# Altium integrated library Renesas Microprocessor SuperH.IntLib: 433 symbols (part 35 of 62)
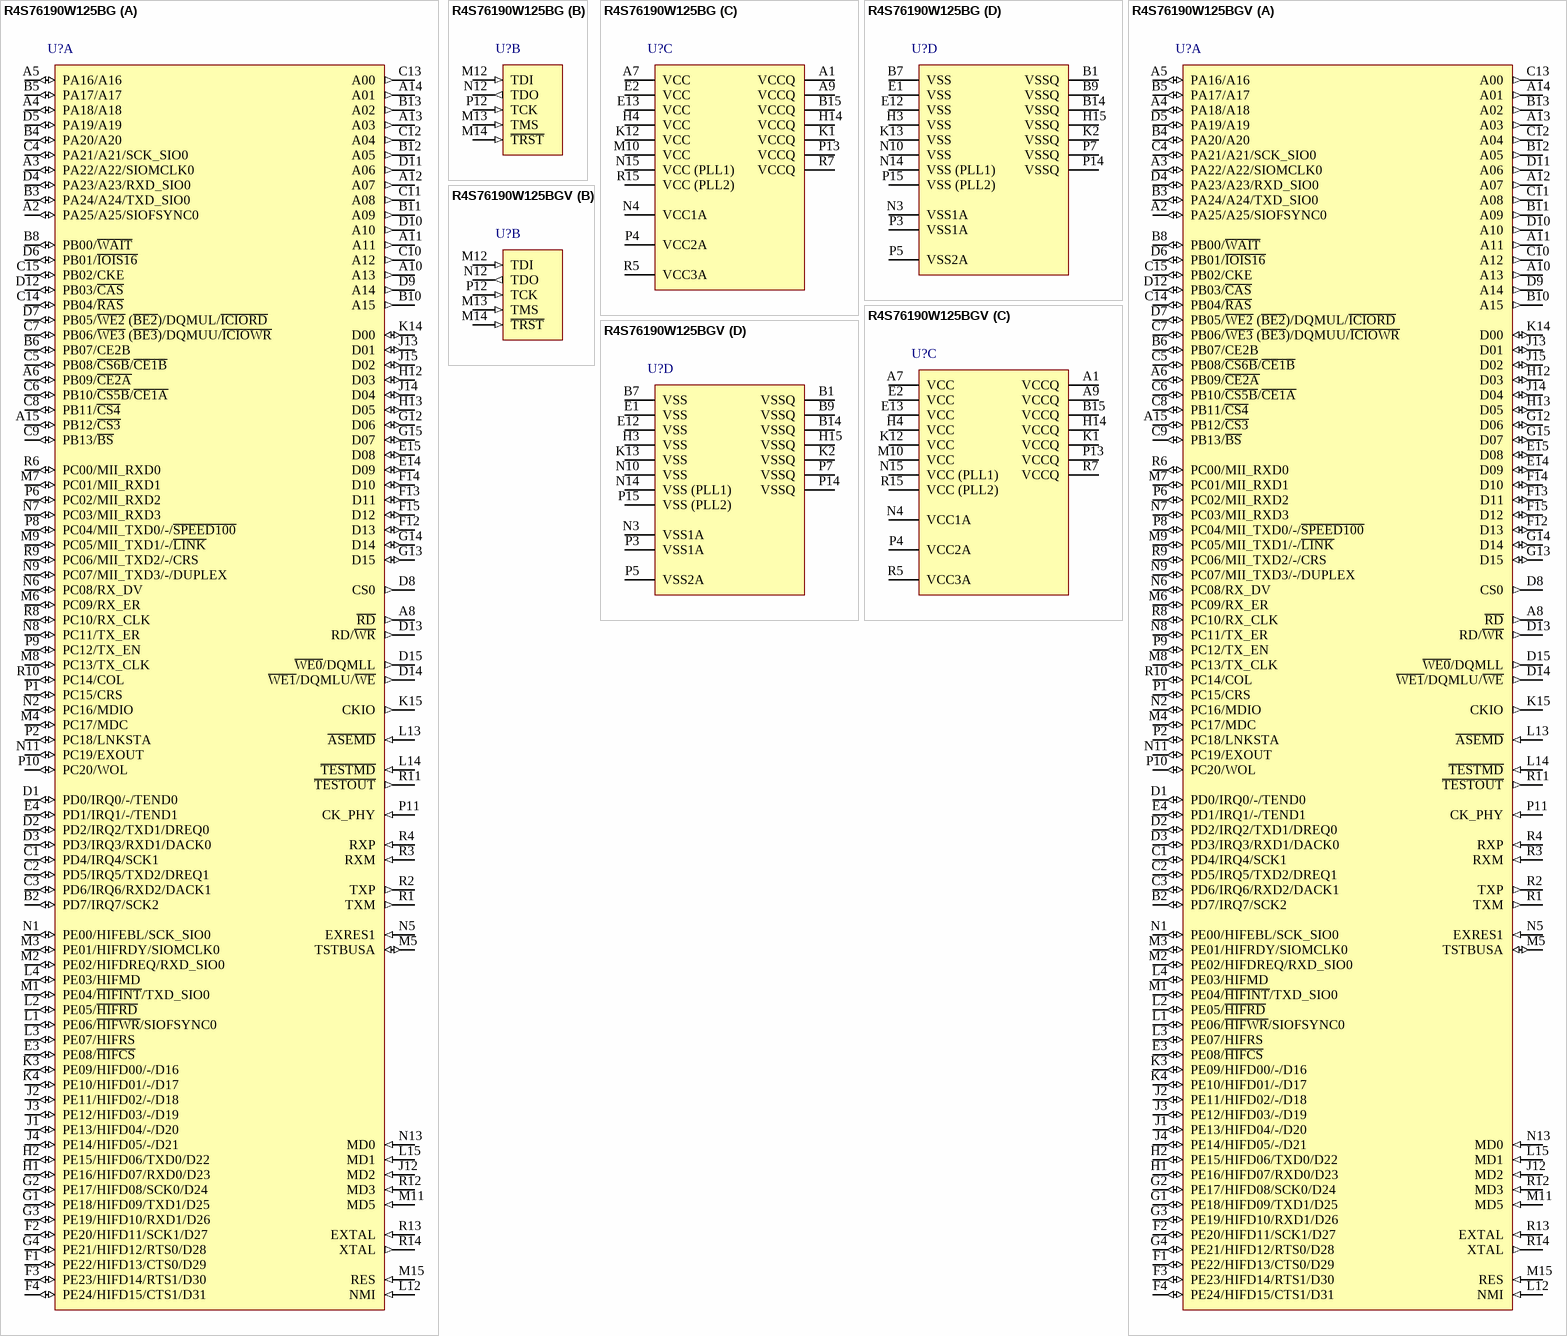
[diagram p303: symbols R4S76190W125BG to R4S76190W125BGV]

## R4S76190W125BGV
designator U?
32-Bit RISC Microcomputer, SH-Ether Series, SH-2 core, 125MHz, 16K RAM, PLBG0176GA-A (BP-176V) Package, -20 to 85°C; Published: 28-Aug-2009; LatestRevisionDate: 15-Feb-2010; LatestRevisionNote: Updated to datasheet revision 6.00 Jul-2009.; DatasheetVersion: Rev.6.00, Jul-2009; PackageVersion: Apr-2006; PackageReference: PLBG0176GA-A; Publisher: Altium Limited; PackageDescription: 176-Ball Plastic Low Profile Fine-Pitch BGA, 13 x 13 mm Body, 0.8 mm Pitch; Code_JEITA: P-LFBGA176-13x13-0.80; ComponentLink1Description: Manufacturer Link; ComponentLink1URL: http://www.renesas.com/fmwk.jsp?cnt=sh7619_root.jsp&fp=/products/mpumcu/superh_family/shether_series/sh7619_group/; ComponentLink2Description: Datasheet; ComponentLink2URL: http://documentation.renesas.com/eng/products/mpumcu/rej09b0237_sh7619.pdf; ComponentLink3Description: Packaging Specification; ComponentLink3URL: http://sg.renesas.com/media/products/common_info/package/pdf/ic/code/plbg0176ga_a.pdf
footprint PLBG0176GA-A (BGA, 176-Leads, Body 13x13mm, Pitch 0.8mm)
part A pins: A2 PA25/A25/SIOFSYNC0 (io), A3 PA22/A22/SIOMCLK0 (io), A4 PA18/A18 (io), A5 PA16/A16 (io), A6 PB09/~{CE2A} (io), A8 ~{RD} (out), A10 A13 (out), A11 (out), A12 A07 (out), A13 A03 (out), A14 A01 (out), A15 PB12/~{CS3} (io), B2 PD7/IRQ7/SCK2 (io), B3 PA24/A24/TXD_SIO0 (io), B4 PA20/A20 (io), B5 PA17/A17 (io), B6 PB07/CE2B (io), B8 PB00/~{WAIT} (io), B10 A15 (out), B11 A09 (out), B12 A05 (out), B13 A02 (out), C1 PD4/IRQ4/SCK1 (io), C2 PD5/IRQ5/TXD2/DREQ1 (io), C3 PD6/IRQ6/RXD2/DACK1 (io), C4 PA21/A21/SCK_SIO0 (io), C5 PB08/~{CS6B}/~{CE1B} (io), C6 PB10/~{CS5B}/~{CE1A} (io), C7 PB06/~{WE3} (~{BE3})/DQMUU/~{ICIOWR} (io), C8 PB11/~{CS4} (io), C9 PB13/~{BS} (io), C10 A12 (out), C11 A08 (out), C12 A04 (out), C13 A00 (out), C14 PB04/~{RAS} (io), C15 PB02/CKE (io), D1 PD0/IRQ0/-/TEND0 (io), D2 PD2/IRQ2/TXD1/DREQ0 (io), D3 PD3/IRQ3/RXD1/DACK0 (io), D4 PA23/A23/RXD_SIO0 (io), D5 PA19/A19 (io), D6 PB01/~{IOIS16} (io), D7 PB05/~{WE2} (~{BE2})/DQMUL/~{ICIORD} (io), D8 CS0 (out), D9 A14 (out), D10 A10 (out), D11 A06 (out), D12 PB03/~{CAS} (io), D13 RD/~{WR} (out), D14 ~{WE1}/DQMLU/~{WE} (out), D15 ~{WE0}/DQMLL (out), E3 PE08/~{HIFCS} (io), E4 PD1/IRQ1/-/TEND1 (io), E14 D09 (io), E15 D08 (io), F1 PE22/HIFD13/CTS0/D29 (io), F2 PE20/HIFD11/SCK1/D27 (io), F3 PE23/HIFD14/RTS1/D30 (io), F4 PE24/HIFD15/CTS1/D31 (io), F12 D13 (io), F13 D11 (io), F14 D10 (io), F15 D12 (io), G1 PE18/HIFD09/TXD1/D25 (io), G2 PE17/HIFD08/SCK0/D24 (io), G3 PE19/HIFD10/RXD1/D26 (io), G4 PE21/HIFD12/RTS0/D28 (io), G12 D06 (io), G13 D15 (io), G14 D14 (io), G15 D07 (io), H1 PE16/HIFD07/RXD0/D23 (io), H2 PE15/HIFD06/TXD0/D22 (io), H12 D03 (io), H13 D05 (io), J1 PE13/HIFD04/-/D20 (io), J2 PE11/HIFD02/-/D18 (io), J3 PE12/HIFD03/-/D19 (io), J4 PE14/HIFD05/-/D21 (io), J12 MD2 (in), J13 D01 (io), J14 D04 (io), J15 D02 (io), K3 PE09/HIFD00/-/D16 (io), K4 PE10/HIFD01/-/D17 (io), K14 D00 (io), K15 CKIO (out), L1 PE06/~{HIFWR}/SIOFSYNC0 (io), L2 PE05/~{HIFRD} (io), L3 PE07/HIFRS (io), L4 PE03/HIFMD (io), L12 NMI (in), L13 ~{ASEMD} (in), L14 ~{TESTMD} (in), L15 MD1 (in), M1 PE04/~{HIFINT}/TXD_SIO0 (io), M2 PE02/HIFDREQ/RXD_SIO0 (io), M3 PE01/HIFRDY/SIOMCLK0 (io), M4 PC17/MDC (io), M5 TSTBUSA (io), M6 PC09/RX_ER (io), M7 PC01/MII_RXD1 (io), M8 PC13/TX_CLK (io), M9 PC05/MII_TXD1/-/~{LINK} (io), M11 MD5 (in), M15 RES (in), N1 PE00/HIFEBL/SCK_SIO0 (io), N2 PC16/MDIO (io), N5 EXRES1 (in), N6 PC08/RX_DV (io), N7 PC03/MII_RXD3 (io), N8 PC11/TX_ER (io), N9 PC07/MII_TXD3/-/DUPLEX (io), N11 PC19/EXOUT (io), N13 MD0 (in), P1 PC15/CRS (io), P2 PC18/LNKSTA (io), P6 PC02/MII_RXD2 (io), P8 PC04/MII_TXD0/-/~{SPEED100} (io), P9 PC12/TX_EN (io), P10 PC20/WOL (io), P11 CK_PHY (in), R1 TXM (out), R2 TXP (out), R3 RXM (in), R4 RXP (in), R6 PC00/MII_RXD0 (io), R8 PC10/RX_CLK (io), R9 PC06/MII_TXD2/-/CRS (io), R10 PC14/COL (io), R11 ~{TESTOUT} (out), R12 MD3 (in), R13 EXTAL (in), R14 XTAL (out)
part B pins: M12 TDI (in), M13 TMS (in), M14 ~{TRST} (in), N12 TDO (out), P12 TCK (in)
part C pins: A1 VCCQ (power), A7 VCC (power), A9 VCCQ (power), B15 VCCQ (power), E2 VCC (power), E13 VCC (power), H4 VCC (power), H14 VCCQ (power), K1 VCCQ (power), K12 VCC (power), M10 VCC (power), N4 VCC1A (power), N15 VCC (PLL1) (power), P4 VCC2A (power), P13 VCCQ (power), R5 VCC3A (power), R7 VCCQ (power), R15 VCC (PLL2) (power)
part D pins: B1 VSSQ (power), B7 VSS (power), B9 VSSQ (power), B14 VSSQ (power), E1 VSS (power), E12 VSS (power), H3 VSS (power), H15 VSSQ (power), K2 VSSQ (power), K13 VSS (power), N3 VSS1A (power), N10 VSS (power), N14 VSS (PLL1) (power), P3 VSS1A (power), P5 VSS2A (power), P7 VSSQ (power), P14 VSSQ (power), P15 VSS (PLL2) (power)

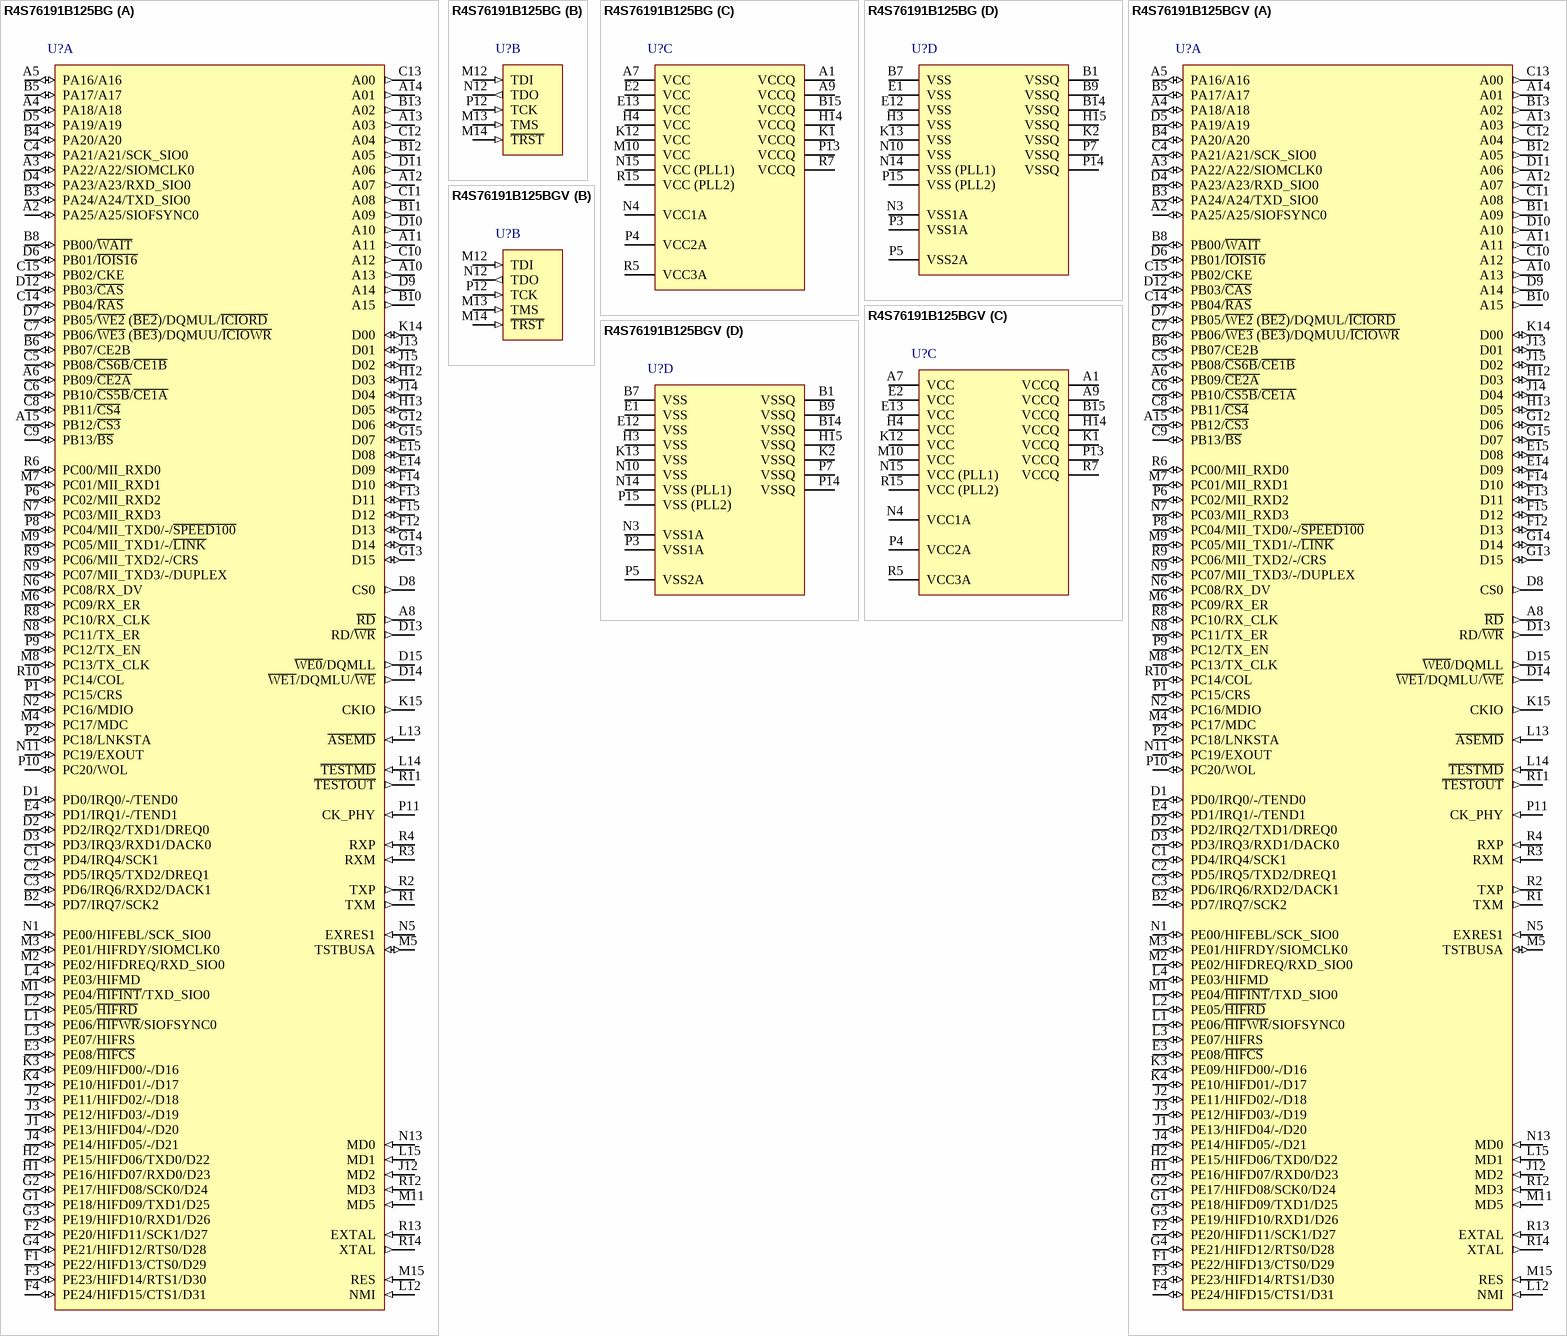
[diagram p126: symbols R4S76191B125BG to R4S76191B125BGV]

## R4S76191B125BG
designator U?
32-Bit RISC Microcomputer, SH-Ether Series, SH-2 core, 125MHz, 16K RAM, PLBG0176GA-A (BP-176) Package, -20 to 70°C; Published: 28-Aug-2009; LatestRevisionDate: 15-Feb-2010; LatestRevisionNote: Updated to datasheet revision 6.00 Jul-2009.; DatasheetVersion: Rev.6.00, Jul-2009; PackageVersion: Apr-2006; PackageReference: PLBG0176GA-A; Publisher: Altium Limited; PackageDescription: 176-Ball Plastic Low Profile Fine-Pitch BGA, 13 x 13 mm Body, 0.8 mm Pitch; Code_JEITA: P-LFBGA176-13x13-0.80; ComponentLink1Description: Manufacturer Link; ComponentLink1URL: http://www.renesas.com/fmwk.jsp?cnt=sh7619_root.jsp&fp=/products/mpumcu/superh_family/shether_series/sh7619_group/; ComponentLink2Description: Datasheet; ComponentLink2URL: http://documentation.renesas.com/eng/products/mpumcu/rej09b0237_sh7619.pdf; ComponentLink3Description: Packaging Specification; ComponentLink3URL: http://sg.renesas.com/media/products/common_info/package/pdf/ic/code/plbg0176ga_a.pdf
footprint PLBG0176GA-A (BGA, 176-Leads, Body 13x13mm, Pitch 0.8mm)
part A pins: A2 PA25/A25/SIOFSYNC0 (io), A3 PA22/A22/SIOMCLK0 (io), A4 PA18/A18 (io), A5 PA16/A16 (io), A6 PB09/~{CE2A} (io), A8 ~{RD} (out), A10 A13 (out), A11 (out), A12 A07 (out), A13 A03 (out), A14 A01 (out), A15 PB12/~{CS3} (io), B2 PD7/IRQ7/SCK2 (io), B3 PA24/A24/TXD_SIO0 (io), B4 PA20/A20 (io), B5 PA17/A17 (io), B6 PB07/CE2B (io), B8 PB00/~{WAIT} (io), B10 A15 (out), B11 A09 (out), B12 A05 (out), B13 A02 (out), C1 PD4/IRQ4/SCK1 (io), C2 PD5/IRQ5/TXD2/DREQ1 (io), C3 PD6/IRQ6/RXD2/DACK1 (io), C4 PA21/A21/SCK_SIO0 (io), C5 PB08/~{CS6B}/~{CE1B} (io), C6 PB10/~{CS5B}/~{CE1A} (io), C7 PB06/~{WE3} (~{BE3})/DQMUU/~{ICIOWR} (io), C8 PB11/~{CS4} (io), C9 PB13/~{BS} (io), C10 A12 (out), C11 A08 (out), C12 A04 (out), C13 A00 (out), C14 PB04/~{RAS} (io), C15 PB02/CKE (io), D1 PD0/IRQ0/-/TEND0 (io), D2 PD2/IRQ2/TXD1/DREQ0 (io), D3 PD3/IRQ3/RXD1/DACK0 (io), D4 PA23/A23/RXD_SIO0 (io), D5 PA19/A19 (io), D6 PB01/~{IOIS16} (io), D7 PB05/~{WE2} (~{BE2})/DQMUL/~{ICIORD} (io), D8 CS0 (out), D9 A14 (out), D10 A10 (out), D11 A06 (out), D12 PB03/~{CAS} (io), D13 RD/~{WR} (out), D14 ~{WE1}/DQMLU/~{WE} (out), D15 ~{WE0}/DQMLL (out), E3 PE08/~{HIFCS} (io), E4 PD1/IRQ1/-/TEND1 (io), E14 D09 (io), E15 D08 (io), F1 PE22/HIFD13/CTS0/D29 (io), F2 PE20/HIFD11/SCK1/D27 (io), F3 PE23/HIFD14/RTS1/D30 (io), F4 PE24/HIFD15/CTS1/D31 (io), F12 D13 (io), F13 D11 (io), F14 D10 (io), F15 D12 (io), G1 PE18/HIFD09/TXD1/D25 (io), G2 PE17/HIFD08/SCK0/D24 (io), G3 PE19/HIFD10/RXD1/D26 (io), G4 PE21/HIFD12/RTS0/D28 (io), G12 D06 (io), G13 D15 (io), G14 D14 (io), G15 D07 (io), H1 PE16/HIFD07/RXD0/D23 (io), H2 PE15/HIFD06/TXD0/D22 (io), H12 D03 (io), H13 D05 (io), J1 PE13/HIFD04/-/D20 (io), J2 PE11/HIFD02/-/D18 (io), J3 PE12/HIFD03/-/D19 (io), J4 PE14/HIFD05/-/D21 (io), J12 MD2 (in), J13 D01 (io), J14 D04 (io), J15 D02 (io), K3 PE09/HIFD00/-/D16 (io), K4 PE10/HIFD01/-/D17 (io), K14 D00 (io), K15 CKIO (out), L1 PE06/~{HIFWR}/SIOFSYNC0 (io), L2 PE05/~{HIFRD} (io), L3 PE07/HIFRS (io), L4 PE03/HIFMD (io), L12 NMI (in), L13 ~{ASEMD} (in), L14 ~{TESTMD} (in), L15 MD1 (in), M1 PE04/~{HIFINT}/TXD_SIO0 (io), M2 PE02/HIFDREQ/RXD_SIO0 (io), M3 PE01/HIFRDY/SIOMCLK0 (io), M4 PC17/MDC (io), M5 TSTBUSA (io), M6 PC09/RX_ER (io), M7 PC01/MII_RXD1 (io), M8 PC13/TX_CLK (io), M9 PC05/MII_TXD1/-/~{LINK} (io), M11 MD5 (in), M15 RES (in), N1 PE00/HIFEBL/SCK_SIO0 (io), N2 PC16/MDIO (io), N5 EXRES1 (in), N6 PC08/RX_DV (io), N7 PC03/MII_RXD3 (io), N8 PC11/TX_ER (io), N9 PC07/MII_TXD3/-/DUPLEX (io), N11 PC19/EXOUT (io), N13 MD0 (in), P1 PC15/CRS (io), P2 PC18/LNKSTA (io), P6 PC02/MII_RXD2 (io), P8 PC04/MII_TXD0/-/~{SPEED100} (io), P9 PC12/TX_EN (io), P10 PC20/WOL (io), P11 CK_PHY (in), R1 TXM (out), R2 TXP (out), R3 RXM (in), R4 RXP (in), R6 PC00/MII_RXD0 (io), R8 PC10/RX_CLK (io), R9 PC06/MII_TXD2/-/CRS (io), R10 PC14/COL (io), R11 ~{TESTOUT} (out), R12 MD3 (in), R13 EXTAL (in), R14 XTAL (out)
part B pins: M12 TDI (in), M13 TMS (in), M14 ~{TRST} (in), N12 TDO (out), P12 TCK (in)
part C pins: A1 VCCQ (power), A7 VCC (power), A9 VCCQ (power), B15 VCCQ (power), E2 VCC (power), E13 VCC (power), H4 VCC (power), H14 VCCQ (power), K1 VCCQ (power), K12 VCC (power), M10 VCC (power), N4 VCC1A (power), N15 VCC (PLL1) (power), P4 VCC2A (power), P13 VCCQ (power), R5 VCC3A (power), R7 VCCQ (power), R15 VCC (PLL2) (power)
part D pins: B1 VSSQ (power), B7 VSS (power), B9 VSSQ (power), B14 VSSQ (power), E1 VSS (power), E12 VSS (power), H3 VSS (power), H15 VSSQ (power), K2 VSSQ (power), K13 VSS (power), N3 VSS1A (power), N10 VSS (power), N14 VSS (PLL1) (power), P3 VSS1A (power), P5 VSS2A (power), P7 VSSQ (power), P14 VSSQ (power), P15 VSS (PLL2) (power)

## R4S76191B125BGV
designator U?
32-Bit RISC Microcomputer, SH-Ether Series, SH-2 core, 125MHz, 16K RAM, PLBG0176GA-A (BP-176V) Package, -20 to 70°C; Published: 28-Aug-2009; LatestRevisionDate: 15-Feb-2010; LatestRevisionNote: Updated to datasheet revision 6.00 Jul-2009.; DatasheetVersion: Rev.6.00, Jul-2009; PackageVersion: Apr-2006; PackageReference: PLBG0176GA-A; Publisher: Altium Limited; PackageDescription: 176-Ball Plastic Low Profile Fine-Pitch BGA, 13 x 13 mm Body, 0.8 mm Pitch; Code_JEITA: P-LFBGA176-13x13-0.80; ComponentLink1Description: Manufacturer Link; ComponentLink1URL: http://www.renesas.com/fmwk.jsp?cnt=sh7619_root.jsp&fp=/products/mpumcu/superh_family/shether_series/sh7619_group/; ComponentLink2Description: Datasheet; ComponentLink2URL: http://documentation.renesas.com/eng/products/mpumcu/rej09b0237_sh7619.pdf; ComponentLink3Description: Packaging Specification; ComponentLink3URL: http://sg.renesas.com/media/products/common_info/package/pdf/ic/code/plbg0176ga_a.pdf
footprint PLBG0176GA-A (BGA, 176-Leads, Body 13x13mm, Pitch 0.8mm)
part A pins: A2 PA25/A25/SIOFSYNC0 (io), A3 PA22/A22/SIOMCLK0 (io), A4 PA18/A18 (io), A5 PA16/A16 (io), A6 PB09/~{CE2A} (io), A8 ~{RD} (out), A10 A13 (out), A11 (out), A12 A07 (out), A13 A03 (out), A14 A01 (out), A15 PB12/~{CS3} (io), B2 PD7/IRQ7/SCK2 (io), B3 PA24/A24/TXD_SIO0 (io), B4 PA20/A20 (io), B5 PA17/A17 (io), B6 PB07/CE2B (io), B8 PB00/~{WAIT} (io), B10 A15 (out), B11 A09 (out), B12 A05 (out), B13 A02 (out), C1 PD4/IRQ4/SCK1 (io), C2 PD5/IRQ5/TXD2/DREQ1 (io), C3 PD6/IRQ6/RXD2/DACK1 (io), C4 PA21/A21/SCK_SIO0 (io), C5 PB08/~{CS6B}/~{CE1B} (io), C6 PB10/~{CS5B}/~{CE1A} (io), C7 PB06/~{WE3} (~{BE3})/DQMUU/~{ICIOWR} (io), C8 PB11/~{CS4} (io), C9 PB13/~{BS} (io), C10 A12 (out), C11 A08 (out), C12 A04 (out), C13 A00 (out), C14 PB04/~{RAS} (io), C15 PB02/CKE (io), D1 PD0/IRQ0/-/TEND0 (io), D2 PD2/IRQ2/TXD1/DREQ0 (io), D3 PD3/IRQ3/RXD1/DACK0 (io), D4 PA23/A23/RXD_SIO0 (io), D5 PA19/A19 (io), D6 PB01/~{IOIS16} (io), D7 PB05/~{WE2} (~{BE2})/DQMUL/~{ICIORD} (io), D8 CS0 (out), D9 A14 (out), D10 A10 (out), D11 A06 (out), D12 PB03/~{CAS} (io), D13 RD/~{WR} (out), D14 ~{WE1}/DQMLU/~{WE} (out), D15 ~{WE0}/DQMLL (out), E3 PE08/~{HIFCS} (io), E4 PD1/IRQ1/-/TEND1 (io), E14 D09 (io), E15 D08 (io), F1 PE22/HIFD13/CTS0/D29 (io), F2 PE20/HIFD11/SCK1/D27 (io), F3 PE23/HIFD14/RTS1/D30 (io), F4 PE24/HIFD15/CTS1/D31 (io), F12 D13 (io), F13 D11 (io), F14 D10 (io), F15 D12 (io), G1 PE18/HIFD09/TXD1/D25 (io), G2 PE17/HIFD08/SCK0/D24 (io), G3 PE19/HIFD10/RXD1/D26 (io), G4 PE21/HIFD12/RTS0/D28 (io), G12 D06 (io), G13 D15 (io), G14 D14 (io), G15 D07 (io), H1 PE16/HIFD07/RXD0/D23 (io), H2 PE15/HIFD06/TXD0/D22 (io), H12 D03 (io), H13 D05 (io), J1 PE13/HIFD04/-/D20 (io), J2 PE11/HIFD02/-/D18 (io), J3 PE12/HIFD03/-/D19 (io), J4 PE14/HIFD05/-/D21 (io), J12 MD2 (in), J13 D01 (io), J14 D04 (io), J15 D02 (io), K3 PE09/HIFD00/-/D16 (io), K4 PE10/HIFD01/-/D17 (io), K14 D00 (io), K15 CKIO (out), L1 PE06/~{HIFWR}/SIOFSYNC0 (io), L2 PE05/~{HIFRD} (io), L3 PE07/HIFRS (io), L4 PE03/HIFMD (io), L12 NMI (in), L13 ~{ASEMD} (in), L14 ~{TESTMD} (in), L15 MD1 (in), M1 PE04/~{HIFINT}/TXD_SIO0 (io), M2 PE02/HIFDREQ/RXD_SIO0 (io), M3 PE01/HIFRDY/SIOMCLK0 (io), M4 PC17/MDC (io), M5 TSTBUSA (io), M6 PC09/RX_ER (io), M7 PC01/MII_RXD1 (io), M8 PC13/TX_CLK (io), M9 PC05/MII_TXD1/-/~{LINK} (io), M11 MD5 (in), M15 RES (in), N1 PE00/HIFEBL/SCK_SIO0 (io), N2 PC16/MDIO (io), N5 EXRES1 (in), N6 PC08/RX_DV (io), N7 PC03/MII_RXD3 (io), N8 PC11/TX_ER (io), N9 PC07/MII_TXD3/-/DUPLEX (io), N11 PC19/EXOUT (io), N13 MD0 (in), P1 PC15/CRS (io), P2 PC18/LNKSTA (io), P6 PC02/MII_RXD2 (io), P8 PC04/MII_TXD0/-/~{SPEED100} (io), P9 PC12/TX_EN (io), P10 PC20/WOL (io), P11 CK_PHY (in), R1 TXM (out), R2 TXP (out), R3 RXM (in), R4 RXP (in), R6 PC00/MII_RXD0 (io), R8 PC10/RX_CLK (io), R9 PC06/MII_TXD2/-/CRS (io), R10 PC14/COL (io), R11 ~{TESTOUT} (out), R12 MD3 (in), R13 EXTAL (in), R14 XTAL (out)
part B pins: M12 TDI (in), M13 TMS (in), M14 ~{TRST} (in), N12 TDO (out), P12 TCK (in)
part C pins: A1 VCCQ (power), A7 VCC (power), A9 VCCQ (power), B15 VCCQ (power), E2 VCC (power), E13 VCC (power), H4 VCC (power), H14 VCCQ (power), K1 VCCQ (power), K12 VCC (power), M10 VCC (power), N4 VCC1A (power), N15 VCC (PLL1) (power), P4 VCC2A (power), P13 VCCQ (power), R5 VCC3A (power), R7 VCCQ (power), R15 VCC (PLL2) (power)
part D pins: B1 VSSQ (power), B7 VSS (power), B9 VSSQ (power), B14 VSSQ (power), E1 VSS (power), E12 VSS (power), H3 VSS (power), H15 VSSQ (power), K2 VSSQ (power), K13 VSS (power), N3 VSS1A (power), N10 VSS (power), N14 VSS (PLL1) (power), P3 VSS1A (power), P5 VSS2A (power), P7 VSSQ (power), P14 VSSQ (power), P15 VSS (PLL2) (power)

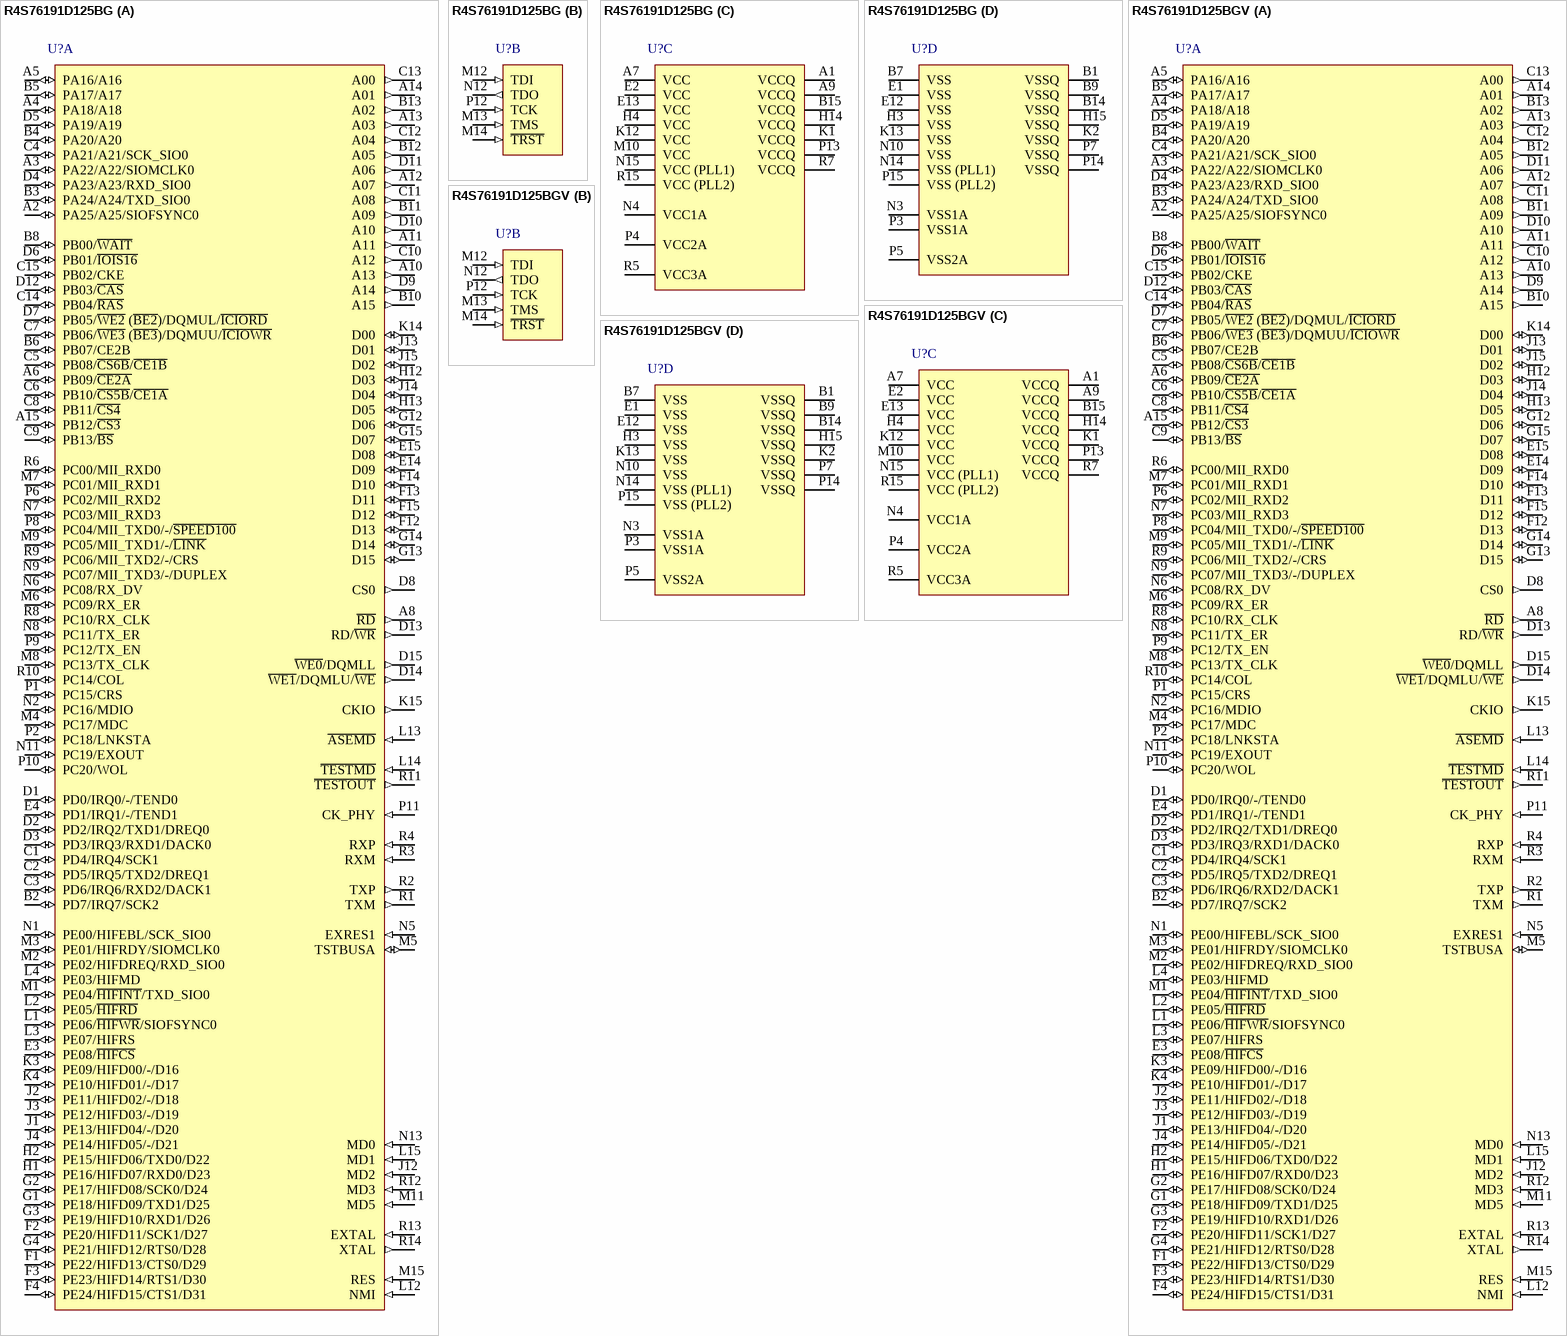
[diagram p127: symbols R4S76191D125BG to R4S76191D125BGV]

## R4S76191D125BG
designator U?
32-Bit RISC Microcomputer, SH-Ether Series, SH-2 core, 125MHz, 16K RAM, PLBG0176GA-A (BP-176) Package, -40 to 85°C; Published: 28-Aug-2009; LatestRevisionDate: 15-Feb-2010; LatestRevisionNote: Updated to datasheet revision 6.00 Jul-2009.; DatasheetVersion: Rev.6.00, Jul-2009; PackageVersion: Apr-2006; PackageReference: PLBG0176GA-A; Publisher: Altium Limited; PackageDescription: 176-Ball Plastic Low Profile Fine-Pitch BGA, 13 x 13 mm Body, 0.8 mm Pitch; Code_JEITA: P-LFBGA176-13x13-0.80; ComponentLink1Description: Manufacturer Link; ComponentLink1URL: http://www.renesas.com/fmwk.jsp?cnt=sh7619_root.jsp&fp=/products/mpumcu/superh_family/shether_series/sh7619_group/; ComponentLink2Description: Datasheet; ComponentLink2URL: http://documentation.renesas.com/eng/products/mpumcu/rej09b0237_sh7619.pdf; ComponentLink3Description: Packaging Specification; ComponentLink3URL: http://sg.renesas.com/media/products/common_info/package/pdf/ic/code/plbg0176ga_a.pdf
footprint PLBG0176GA-A (BGA, 176-Leads, Body 13x13mm, Pitch 0.8mm)
part A pins: A2 PA25/A25/SIOFSYNC0 (io), A3 PA22/A22/SIOMCLK0 (io), A4 PA18/A18 (io), A5 PA16/A16 (io), A6 PB09/~{CE2A} (io), A8 ~{RD} (out), A10 A13 (out), A11 (out), A12 A07 (out), A13 A03 (out), A14 A01 (out), A15 PB12/~{CS3} (io), B2 PD7/IRQ7/SCK2 (io), B3 PA24/A24/TXD_SIO0 (io), B4 PA20/A20 (io), B5 PA17/A17 (io), B6 PB07/CE2B (io), B8 PB00/~{WAIT} (io), B10 A15 (out), B11 A09 (out), B12 A05 (out), B13 A02 (out), C1 PD4/IRQ4/SCK1 (io), C2 PD5/IRQ5/TXD2/DREQ1 (io), C3 PD6/IRQ6/RXD2/DACK1 (io), C4 PA21/A21/SCK_SIO0 (io), C5 PB08/~{CS6B}/~{CE1B} (io), C6 PB10/~{CS5B}/~{CE1A} (io), C7 PB06/~{WE3} (~{BE3})/DQMUU/~{ICIOWR} (io), C8 PB11/~{CS4} (io), C9 PB13/~{BS} (io), C10 A12 (out), C11 A08 (out), C12 A04 (out), C13 A00 (out), C14 PB04/~{RAS} (io), C15 PB02/CKE (io), D1 PD0/IRQ0/-/TEND0 (io), D2 PD2/IRQ2/TXD1/DREQ0 (io), D3 PD3/IRQ3/RXD1/DACK0 (io), D4 PA23/A23/RXD_SIO0 (io), D5 PA19/A19 (io), D6 PB01/~{IOIS16} (io), D7 PB05/~{WE2} (~{BE2})/DQMUL/~{ICIORD} (io), D8 CS0 (out), D9 A14 (out), D10 A10 (out), D11 A06 (out), D12 PB03/~{CAS} (io), D13 RD/~{WR} (out), D14 ~{WE1}/DQMLU/~{WE} (out), D15 ~{WE0}/DQMLL (out), E3 PE08/~{HIFCS} (io), E4 PD1/IRQ1/-/TEND1 (io), E14 D09 (io), E15 D08 (io), F1 PE22/HIFD13/CTS0/D29 (io), F2 PE20/HIFD11/SCK1/D27 (io), F3 PE23/HIFD14/RTS1/D30 (io), F4 PE24/HIFD15/CTS1/D31 (io), F12 D13 (io), F13 D11 (io), F14 D10 (io), F15 D12 (io), G1 PE18/HIFD09/TXD1/D25 (io), G2 PE17/HIFD08/SCK0/D24 (io), G3 PE19/HIFD10/RXD1/D26 (io), G4 PE21/HIFD12/RTS0/D28 (io), G12 D06 (io), G13 D15 (io), G14 D14 (io), G15 D07 (io), H1 PE16/HIFD07/RXD0/D23 (io), H2 PE15/HIFD06/TXD0/D22 (io), H12 D03 (io), H13 D05 (io), J1 PE13/HIFD04/-/D20 (io), J2 PE11/HIFD02/-/D18 (io), J3 PE12/HIFD03/-/D19 (io), J4 PE14/HIFD05/-/D21 (io), J12 MD2 (in), J13 D01 (io), J14 D04 (io), J15 D02 (io), K3 PE09/HIFD00/-/D16 (io), K4 PE10/HIFD01/-/D17 (io), K14 D00 (io), K15 CKIO (out), L1 PE06/~{HIFWR}/SIOFSYNC0 (io), L2 PE05/~{HIFRD} (io), L3 PE07/HIFRS (io), L4 PE03/HIFMD (io), L12 NMI (in), L13 ~{ASEMD} (in), L14 ~{TESTMD} (in), L15 MD1 (in), M1 PE04/~{HIFINT}/TXD_SIO0 (io), M2 PE02/HIFDREQ/RXD_SIO0 (io), M3 PE01/HIFRDY/SIOMCLK0 (io), M4 PC17/MDC (io), M5 TSTBUSA (io), M6 PC09/RX_ER (io), M7 PC01/MII_RXD1 (io), M8 PC13/TX_CLK (io), M9 PC05/MII_TXD1/-/~{LINK} (io), M11 MD5 (in), M15 RES (in), N1 PE00/HIFEBL/SCK_SIO0 (io), N2 PC16/MDIO (io), N5 EXRES1 (in), N6 PC08/RX_DV (io), N7 PC03/MII_RXD3 (io), N8 PC11/TX_ER (io), N9 PC07/MII_TXD3/-/DUPLEX (io), N11 PC19/EXOUT (io), N13 MD0 (in), P1 PC15/CRS (io), P2 PC18/LNKSTA (io), P6 PC02/MII_RXD2 (io), P8 PC04/MII_TXD0/-/~{SPEED100} (io), P9 PC12/TX_EN (io), P10 PC20/WOL (io), P11 CK_PHY (in), R1 TXM (out), R2 TXP (out), R3 RXM (in), R4 RXP (in), R6 PC00/MII_RXD0 (io), R8 PC10/RX_CLK (io), R9 PC06/MII_TXD2/-/CRS (io), R10 PC14/COL (io), R11 ~{TESTOUT} (out), R12 MD3 (in), R13 EXTAL (in), R14 XTAL (out)
part B pins: M12 TDI (in), M13 TMS (in), M14 ~{TRST} (in), N12 TDO (out), P12 TCK (in)
part C pins: A1 VCCQ (power), A7 VCC (power), A9 VCCQ (power), B15 VCCQ (power), E2 VCC (power), E13 VCC (power), H4 VCC (power), H14 VCCQ (power), K1 VCCQ (power), K12 VCC (power), M10 VCC (power), N4 VCC1A (power), N15 VCC (PLL1) (power), P4 VCC2A (power), P13 VCCQ (power), R5 VCC3A (power), R7 VCCQ (power), R15 VCC (PLL2) (power)
part D pins: B1 VSSQ (power), B7 VSS (power), B9 VSSQ (power), B14 VSSQ (power), E1 VSS (power), E12 VSS (power), H3 VSS (power), H15 VSSQ (power), K2 VSSQ (power), K13 VSS (power), N3 VSS1A (power), N10 VSS (power), N14 VSS (PLL1) (power), P3 VSS1A (power), P5 VSS2A (power), P7 VSSQ (power), P14 VSSQ (power), P15 VSS (PLL2) (power)

## R4S76191D125BGV
designator U?
32-Bit RISC Microcomputer, SH-Ether Series, SH-2 core, 125MHz, 16K RAM, PLBG0176GA-A (BP-176V) Package, -40 to 85°C; Published: 28-Aug-2009; LatestRevisionDate: 15-Feb-2010; LatestRevisionNote: Updated to datasheet revision 6.00 Jul-2009.; DatasheetVersion: Rev.6.00, Jul-2009; PackageVersion: Apr-2006; PackageReference: PLBG0176GA-A; Publisher: Altium Limited; PackageDescription: 176-Ball Plastic Low Profile Fine-Pitch BGA, 13 x 13 mm Body, 0.8 mm Pitch; Code_JEITA: P-LFBGA176-13x13-0.80; ComponentLink1Description: Manufacturer Link; ComponentLink1URL: http://www.renesas.com/fmwk.jsp?cnt=sh7619_root.jsp&fp=/products/mpumcu/superh_family/shether_series/sh7619_group/; ComponentLink2Description: Datasheet; ComponentLink2URL: http://documentation.renesas.com/eng/products/mpumcu/rej09b0237_sh7619.pdf; ComponentLink3Description: Packaging Specification; ComponentLink3URL: http://sg.renesas.com/media/products/common_info/package/pdf/ic/code/plbg0176ga_a.pdf
footprint PLBG0176GA-A (BGA, 176-Leads, Body 13x13mm, Pitch 0.8mm)
part A pins: A2 PA25/A25/SIOFSYNC0 (io), A3 PA22/A22/SIOMCLK0 (io), A4 PA18/A18 (io), A5 PA16/A16 (io), A6 PB09/~{CE2A} (io), A8 ~{RD} (out), A10 A13 (out), A11 (out), A12 A07 (out), A13 A03 (out), A14 A01 (out), A15 PB12/~{CS3} (io), B2 PD7/IRQ7/SCK2 (io), B3 PA24/A24/TXD_SIO0 (io), B4 PA20/A20 (io), B5 PA17/A17 (io), B6 PB07/CE2B (io), B8 PB00/~{WAIT} (io), B10 A15 (out), B11 A09 (out), B12 A05 (out), B13 A02 (out), C1 PD4/IRQ4/SCK1 (io), C2 PD5/IRQ5/TXD2/DREQ1 (io), C3 PD6/IRQ6/RXD2/DACK1 (io), C4 PA21/A21/SCK_SIO0 (io), C5 PB08/~{CS6B}/~{CE1B} (io), C6 PB10/~{CS5B}/~{CE1A} (io), C7 PB06/~{WE3} (~{BE3})/DQMUU/~{ICIOWR} (io), C8 PB11/~{CS4} (io), C9 PB13/~{BS} (io), C10 A12 (out), C11 A08 (out), C12 A04 (out), C13 A00 (out), C14 PB04/~{RAS} (io), C15 PB02/CKE (io), D1 PD0/IRQ0/-/TEND0 (io), D2 PD2/IRQ2/TXD1/DREQ0 (io), D3 PD3/IRQ3/RXD1/DACK0 (io), D4 PA23/A23/RXD_SIO0 (io), D5 PA19/A19 (io), D6 PB01/~{IOIS16} (io), D7 PB05/~{WE2} (~{BE2})/DQMUL/~{ICIORD} (io), D8 CS0 (out), D9 A14 (out), D10 A10 (out), D11 A06 (out), D12 PB03/~{CAS} (io), D13 RD/~{WR} (out), D14 ~{WE1}/DQMLU/~{WE} (out), D15 ~{WE0}/DQMLL (out), E3 PE08/~{HIFCS} (io), E4 PD1/IRQ1/-/TEND1 (io), E14 D09 (io), E15 D08 (io), F1 PE22/HIFD13/CTS0/D29 (io), F2 PE20/HIFD11/SCK1/D27 (io), F3 PE23/HIFD14/RTS1/D30 (io), F4 PE24/HIFD15/CTS1/D31 (io), F12 D13 (io), F13 D11 (io), F14 D10 (io), F15 D12 (io), G1 PE18/HIFD09/TXD1/D25 (io), G2 PE17/HIFD08/SCK0/D24 (io), G3 PE19/HIFD10/RXD1/D26 (io), G4 PE21/HIFD12/RTS0/D28 (io), G12 D06 (io), G13 D15 (io), G14 D14 (io), G15 D07 (io), H1 PE16/HIFD07/RXD0/D23 (io), H2 PE15/HIFD06/TXD0/D22 (io), H12 D03 (io), H13 D05 (io), J1 PE13/HIFD04/-/D20 (io), J2 PE11/HIFD02/-/D18 (io), J3 PE12/HIFD03/-/D19 (io), J4 PE14/HIFD05/-/D21 (io), J12 MD2 (in), J13 D01 (io), J14 D04 (io), J15 D02 (io), K3 PE09/HIFD00/-/D16 (io), K4 PE10/HIFD01/-/D17 (io), K14 D00 (io), K15 CKIO (out), L1 PE06/~{HIFWR}/SIOFSYNC0 (io), L2 PE05/~{HIFRD} (io), L3 PE07/HIFRS (io), L4 PE03/HIFMD (io), L12 NMI (in), L13 ~{ASEMD} (in), L14 ~{TESTMD} (in), L15 MD1 (in), M1 PE04/~{HIFINT}/TXD_SIO0 (io), M2 PE02/HIFDREQ/RXD_SIO0 (io), M3 PE01/HIFRDY/SIOMCLK0 (io), M4 PC17/MDC (io), M5 TSTBUSA (io), M6 PC09/RX_ER (io), M7 PC01/MII_RXD1 (io), M8 PC13/TX_CLK (io), M9 PC05/MII_TXD1/-/~{LINK} (io), M11 MD5 (in), M15 RES (in), N1 PE00/HIFEBL/SCK_SIO0 (io), N2 PC16/MDIO (io), N5 EXRES1 (in), N6 PC08/RX_DV (io), N7 PC03/MII_RXD3 (io), N8 PC11/TX_ER (io), N9 PC07/MII_TXD3/-/DUPLEX (io), N11 PC19/EXOUT (io), N13 MD0 (in), P1 PC15/CRS (io), P2 PC18/LNKSTA (io), P6 PC02/MII_RXD2 (io), P8 PC04/MII_TXD0/-/~{SPEED100} (io), P9 PC12/TX_EN (io), P10 PC20/WOL (io), P11 CK_PHY (in), R1 TXM (out), R2 TXP (out), R3 RXM (in), R4 RXP (in), R6 PC00/MII_RXD0 (io), R8 PC10/RX_CLK (io), R9 PC06/MII_TXD2/-/CRS (io), R10 PC14/COL (io), R11 ~{TESTOUT} (out), R12 MD3 (in), R13 EXTAL (in), R14 XTAL (out)
part B pins: M12 TDI (in), M13 TMS (in), M14 ~{TRST} (in), N12 TDO (out), P12 TCK (in)
part C pins: A1 VCCQ (power), A7 VCC (power), A9 VCCQ (power), B15 VCCQ (power), E2 VCC (power), E13 VCC (power), H4 VCC (power), H14 VCCQ (power), K1 VCCQ (power), K12 VCC (power), M10 VCC (power), N4 VCC1A (power), N15 VCC (PLL1) (power), P4 VCC2A (power), P13 VCCQ (power), R5 VCC3A (power), R7 VCCQ (power), R15 VCC (PLL2) (power)
part D pins: B1 VSSQ (power), B7 VSS (power), B9 VSSQ (power), B14 VSSQ (power), E1 VSS (power), E12 VSS (power), H3 VSS (power), H15 VSSQ (power), K2 VSSQ (power), K13 VSS (power), N3 VSS1A (power), N10 VSS (power), N14 VSS (PLL1) (power), P3 VSS1A (power), P5 VSS2A (power), P7 VSSQ (power), P14 VSSQ (power), P15 VSS (PLL2) (power)

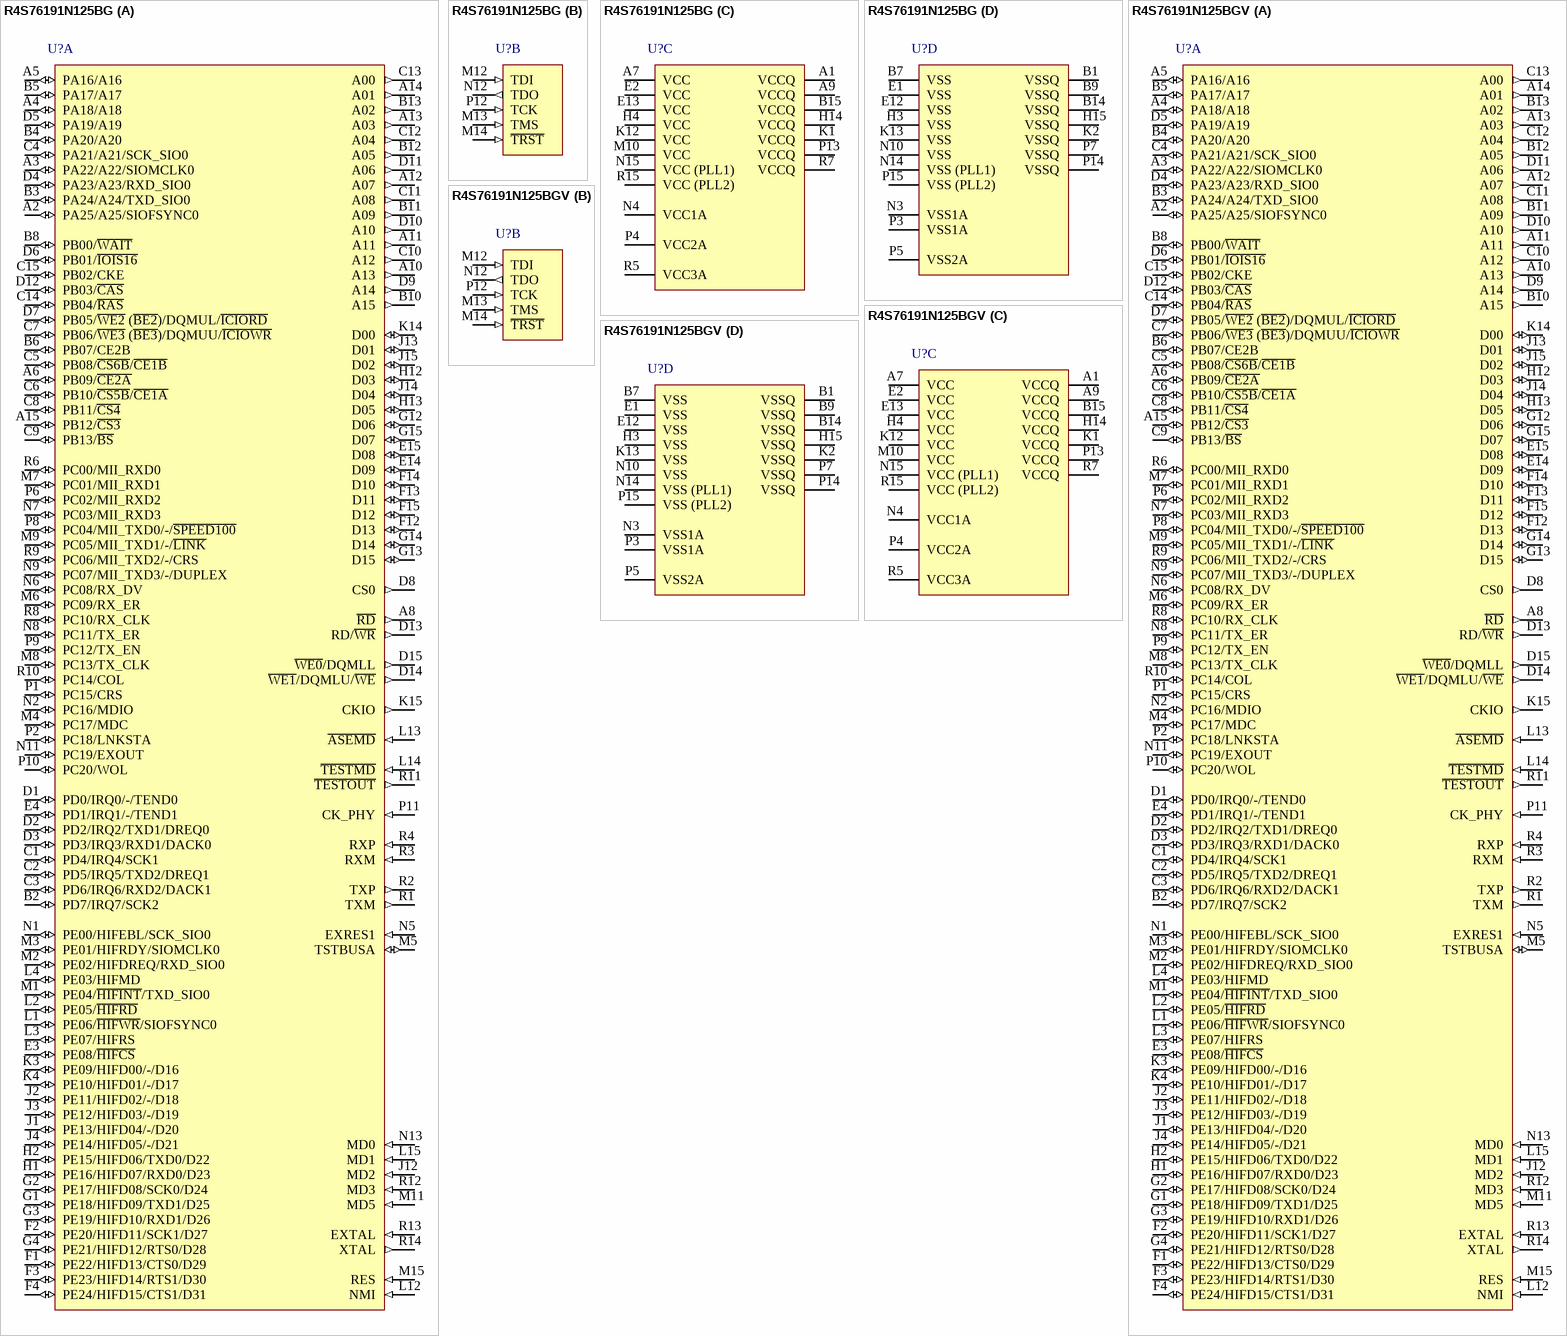
[diagram p128: symbols R4S76191N125BG to R4S76191N125BGV]

## R4S76191N125BG
designator U?
32-Bit RISC Microcomputer, SH-Ether Series, SH-2 core, 125MHz, 16K RAM, PLBG0176GA-A (BP-176) Package, -20 to 85°C; Published: 28-Aug-2009; LatestRevisionDate: 15-Feb-2010; LatestRevisionNote: Updated to datasheet revision 6.00 Jul-2009.; DatasheetVersion: Rev.6.00, Jul-2009; PackageVersion: Apr-2006; PackageReference: PLBG0176GA-A; Publisher: Altium Limited; PackageDescription: 176-Ball Plastic Low Profile Fine-Pitch BGA, 13 x 13 mm Body, 0.8 mm Pitch; Code_JEITA: P-LFBGA176-13x13-0.80; ComponentLink1Description: Manufacturer Link; ComponentLink1URL: http://www.renesas.com/fmwk.jsp?cnt=sh7619_root.jsp&fp=/products/mpumcu/superh_family/shether_series/sh7619_group/; ComponentLink2Description: Datasheet; ComponentLink2URL: http://documentation.renesas.com/eng/products/mpumcu/rej09b0237_sh7619.pdf; ComponentLink3Description: Packaging Specification; ComponentLink3URL: http://sg.renesas.com/media/products/common_info/package/pdf/ic/code/plbg0176ga_a.pdf
footprint PLBG0176GA-A (BGA, 176-Leads, Body 13x13mm, Pitch 0.8mm)
part A pins: A2 PA25/A25/SIOFSYNC0 (io), A3 PA22/A22/SIOMCLK0 (io), A4 PA18/A18 (io), A5 PA16/A16 (io), A6 PB09/~{CE2A} (io), A8 ~{RD} (out), A10 A13 (out), A11 (out), A12 A07 (out), A13 A03 (out), A14 A01 (out), A15 PB12/~{CS3} (io), B2 PD7/IRQ7/SCK2 (io), B3 PA24/A24/TXD_SIO0 (io), B4 PA20/A20 (io), B5 PA17/A17 (io), B6 PB07/CE2B (io), B8 PB00/~{WAIT} (io), B10 A15 (out), B11 A09 (out), B12 A05 (out), B13 A02 (out), C1 PD4/IRQ4/SCK1 (io), C2 PD5/IRQ5/TXD2/DREQ1 (io), C3 PD6/IRQ6/RXD2/DACK1 (io), C4 PA21/A21/SCK_SIO0 (io), C5 PB08/~{CS6B}/~{CE1B} (io), C6 PB10/~{CS5B}/~{CE1A} (io), C7 PB06/~{WE3} (~{BE3})/DQMUU/~{ICIOWR} (io), C8 PB11/~{CS4} (io), C9 PB13/~{BS} (io), C10 A12 (out), C11 A08 (out), C12 A04 (out), C13 A00 (out), C14 PB04/~{RAS} (io), C15 PB02/CKE (io), D1 PD0/IRQ0/-/TEND0 (io), D2 PD2/IRQ2/TXD1/DREQ0 (io), D3 PD3/IRQ3/RXD1/DACK0 (io), D4 PA23/A23/RXD_SIO0 (io), D5 PA19/A19 (io), D6 PB01/~{IOIS16} (io), D7 PB05/~{WE2} (~{BE2})/DQMUL/~{ICIORD} (io), D8 CS0 (out), D9 A14 (out), D10 A10 (out), D11 A06 (out), D12 PB03/~{CAS} (io), D13 RD/~{WR} (out), D14 ~{WE1}/DQMLU/~{WE} (out), D15 ~{WE0}/DQMLL (out), E3 PE08/~{HIFCS} (io), E4 PD1/IRQ1/-/TEND1 (io), E14 D09 (io), E15 D08 (io), F1 PE22/HIFD13/CTS0/D29 (io), F2 PE20/HIFD11/SCK1/D27 (io), F3 PE23/HIFD14/RTS1/D30 (io), F4 PE24/HIFD15/CTS1/D31 (io), F12 D13 (io), F13 D11 (io), F14 D10 (io), F15 D12 (io), G1 PE18/HIFD09/TXD1/D25 (io), G2 PE17/HIFD08/SCK0/D24 (io), G3 PE19/HIFD10/RXD1/D26 (io), G4 PE21/HIFD12/RTS0/D28 (io), G12 D06 (io), G13 D15 (io), G14 D14 (io), G15 D07 (io), H1 PE16/HIFD07/RXD0/D23 (io), H2 PE15/HIFD06/TXD0/D22 (io), H12 D03 (io), H13 D05 (io), J1 PE13/HIFD04/-/D20 (io), J2 PE11/HIFD02/-/D18 (io), J3 PE12/HIFD03/-/D19 (io), J4 PE14/HIFD05/-/D21 (io), J12 MD2 (in), J13 D01 (io), J14 D04 (io), J15 D02 (io), K3 PE09/HIFD00/-/D16 (io), K4 PE10/HIFD01/-/D17 (io), K14 D00 (io), K15 CKIO (out), L1 PE06/~{HIFWR}/SIOFSYNC0 (io), L2 PE05/~{HIFRD} (io), L3 PE07/HIFRS (io), L4 PE03/HIFMD (io), L12 NMI (in), L13 ~{ASEMD} (in), L14 ~{TESTMD} (in), L15 MD1 (in), M1 PE04/~{HIFINT}/TXD_SIO0 (io), M2 PE02/HIFDREQ/RXD_SIO0 (io), M3 PE01/HIFRDY/SIOMCLK0 (io), M4 PC17/MDC (io), M5 TSTBUSA (io), M6 PC09/RX_ER (io), M7 PC01/MII_RXD1 (io), M8 PC13/TX_CLK (io), M9 PC05/MII_TXD1/-/~{LINK} (io), M11 MD5 (in), M15 RES (in), N1 PE00/HIFEBL/SCK_SIO0 (io), N2 PC16/MDIO (io), N5 EXRES1 (in), N6 PC08/RX_DV (io), N7 PC03/MII_RXD3 (io), N8 PC11/TX_ER (io), N9 PC07/MII_TXD3/-/DUPLEX (io), N11 PC19/EXOUT (io), N13 MD0 (in), P1 PC15/CRS (io), P2 PC18/LNKSTA (io), P6 PC02/MII_RXD2 (io), P8 PC04/MII_TXD0/-/~{SPEED100} (io), P9 PC12/TX_EN (io), P10 PC20/WOL (io), P11 CK_PHY (in), R1 TXM (out), R2 TXP (out), R3 RXM (in), R4 RXP (in), R6 PC00/MII_RXD0 (io), R8 PC10/RX_CLK (io), R9 PC06/MII_TXD2/-/CRS (io), R10 PC14/COL (io), R11 ~{TESTOUT} (out), R12 MD3 (in), R13 EXTAL (in), R14 XTAL (out)
part B pins: M12 TDI (in), M13 TMS (in), M14 ~{TRST} (in), N12 TDO (out), P12 TCK (in)
part C pins: A1 VCCQ (power), A7 VCC (power), A9 VCCQ (power), B15 VCCQ (power), E2 VCC (power), E13 VCC (power), H4 VCC (power), H14 VCCQ (power), K1 VCCQ (power), K12 VCC (power), M10 VCC (power), N4 VCC1A (power), N15 VCC (PLL1) (power), P4 VCC2A (power), P13 VCCQ (power), R5 VCC3A (power), R7 VCCQ (power), R15 VCC (PLL2) (power)
part D pins: B1 VSSQ (power), B7 VSS (power), B9 VSSQ (power), B14 VSSQ (power), E1 VSS (power), E12 VSS (power), H3 VSS (power), H15 VSSQ (power), K2 VSSQ (power), K13 VSS (power), N3 VSS1A (power), N10 VSS (power), N14 VSS (PLL1) (power), P3 VSS1A (power), P5 VSS2A (power), P7 VSSQ (power), P14 VSSQ (power), P15 VSS (PLL2) (power)

## R4S76191N125BGV
designator U?
32-Bit RISC Microcomputer, SH-Ether Series, SH-2 core, 125MHz, 16K RAM, PLBG0176GA-A (BP-176V) Package, -20 to 85°C; Published: 28-Aug-2009; LatestRevisionDate: 15-Feb-2010; LatestRevisionNote: Updated to datasheet revision 6.00 Jul-2009.; DatasheetVersion: Rev.6.00, Jul-2009; PackageVersion: Apr-2006; PackageReference: PLBG0176GA-A; Publisher: Altium Limited; PackageDescription: 176-Ball Plastic Low Profile Fine-Pitch BGA, 13 x 13 mm Body, 0.8 mm Pitch; Code_JEITA: P-LFBGA176-13x13-0.80; ComponentLink1Description: Manufacturer Link; ComponentLink1URL: http://www.renesas.com/fmwk.jsp?cnt=sh7619_root.jsp&fp=/products/mpumcu/superh_family/shether_series/sh7619_group/; ComponentLink2Description: Datasheet; ComponentLink2URL: http://documentation.renesas.com/eng/products/mpumcu/rej09b0237_sh7619.pdf; ComponentLink3Description: Packaging Specification; ComponentLink3URL: http://sg.renesas.com/media/products/common_info/package/pdf/ic/code/plbg0176ga_a.pdf
footprint PLBG0176GA-A (BGA, 176-Leads, Body 13x13mm, Pitch 0.8mm)
part A pins: A2 PA25/A25/SIOFSYNC0 (io), A3 PA22/A22/SIOMCLK0 (io), A4 PA18/A18 (io), A5 PA16/A16 (io), A6 PB09/~{CE2A} (io), A8 ~{RD} (out), A10 A13 (out), A11 (out), A12 A07 (out), A13 A03 (out), A14 A01 (out), A15 PB12/~{CS3} (io), B2 PD7/IRQ7/SCK2 (io), B3 PA24/A24/TXD_SIO0 (io), B4 PA20/A20 (io), B5 PA17/A17 (io), B6 PB07/CE2B (io), B8 PB00/~{WAIT} (io), B10 A15 (out), B11 A09 (out), B12 A05 (out), B13 A02 (out), C1 PD4/IRQ4/SCK1 (io), C2 PD5/IRQ5/TXD2/DREQ1 (io), C3 PD6/IRQ6/RXD2/DACK1 (io), C4 PA21/A21/SCK_SIO0 (io), C5 PB08/~{CS6B}/~{CE1B} (io), C6 PB10/~{CS5B}/~{CE1A} (io), C7 PB06/~{WE3} (~{BE3})/DQMUU/~{ICIOWR} (io), C8 PB11/~{CS4} (io), C9 PB13/~{BS} (io), C10 A12 (out), C11 A08 (out), C12 A04 (out), C13 A00 (out), C14 PB04/~{RAS} (io), C15 PB02/CKE (io), D1 PD0/IRQ0/-/TEND0 (io), D2 PD2/IRQ2/TXD1/DREQ0 (io), D3 PD3/IRQ3/RXD1/DACK0 (io), D4 PA23/A23/RXD_SIO0 (io), D5 PA19/A19 (io), D6 PB01/~{IOIS16} (io), D7 PB05/~{WE2} (~{BE2})/DQMUL/~{ICIORD} (io), D8 CS0 (out), D9 A14 (out), D10 A10 (out), D11 A06 (out), D12 PB03/~{CAS} (io), D13 RD/~{WR} (out), D14 ~{WE1}/DQMLU/~{WE} (out), D15 ~{WE0}/DQMLL (out), E3 PE08/~{HIFCS} (io), E4 PD1/IRQ1/-/TEND1 (io), E14 D09 (io), E15 D08 (io), F1 PE22/HIFD13/CTS0/D29 (io), F2 PE20/HIFD11/SCK1/D27 (io), F3 PE23/HIFD14/RTS1/D30 (io), F4 PE24/HIFD15/CTS1/D31 (io), F12 D13 (io), F13 D11 (io), F14 D10 (io), F15 D12 (io), G1 PE18/HIFD09/TXD1/D25 (io), G2 PE17/HIFD08/SCK0/D24 (io), G3 PE19/HIFD10/RXD1/D26 (io), G4 PE21/HIFD12/RTS0/D28 (io), G12 D06 (io), G13 D15 (io), G14 D14 (io), G15 D07 (io), H1 PE16/HIFD07/RXD0/D23 (io), H2 PE15/HIFD06/TXD0/D22 (io), H12 D03 (io), H13 D05 (io), J1 PE13/HIFD04/-/D20 (io), J2 PE11/HIFD02/-/D18 (io), J3 PE12/HIFD03/-/D19 (io), J4 PE14/HIFD05/-/D21 (io), J12 MD2 (in), J13 D01 (io), J14 D04 (io), J15 D02 (io), K3 PE09/HIFD00/-/D16 (io), K4 PE10/HIFD01/-/D17 (io), K14 D00 (io), K15 CKIO (out), L1 PE06/~{HIFWR}/SIOFSYNC0 (io), L2 PE05/~{HIFRD} (io), L3 PE07/HIFRS (io), L4 PE03/HIFMD (io), L12 NMI (in), L13 ~{ASEMD} (in), L14 ~{TESTMD} (in), L15 MD1 (in), M1 PE04/~{HIFINT}/TXD_SIO0 (io), M2 PE02/HIFDREQ/RXD_SIO0 (io), M3 PE01/HIFRDY/SIOMCLK0 (io), M4 PC17/MDC (io), M5 TSTBUSA (io), M6 PC09/RX_ER (io), M7 PC01/MII_RXD1 (io), M8 PC13/TX_CLK (io), M9 PC05/MII_TXD1/-/~{LINK} (io), M11 MD5 (in), M15 RES (in), N1 PE00/HIFEBL/SCK_SIO0 (io), N2 PC16/MDIO (io), N5 EXRES1 (in), N6 PC08/RX_DV (io), N7 PC03/MII_RXD3 (io), N8 PC11/TX_ER (io), N9 PC07/MII_TXD3/-/DUPLEX (io), N11 PC19/EXOUT (io), N13 MD0 (in), P1 PC15/CRS (io), P2 PC18/LNKSTA (io), P6 PC02/MII_RXD2 (io), P8 PC04/MII_TXD0/-/~{SPEED100} (io), P9 PC12/TX_EN (io), P10 PC20/WOL (io), P11 CK_PHY (in), R1 TXM (out), R2 TXP (out), R3 RXM (in), R4 RXP (in), R6 PC00/MII_RXD0 (io), R8 PC10/RX_CLK (io), R9 PC06/MII_TXD2/-/CRS (io), R10 PC14/COL (io), R11 ~{TESTOUT} (out), R12 MD3 (in), R13 EXTAL (in), R14 XTAL (out)
part B pins: M12 TDI (in), M13 TMS (in), M14 ~{TRST} (in), N12 TDO (out), P12 TCK (in)
part C pins: A1 VCCQ (power), A7 VCC (power), A9 VCCQ (power), B15 VCCQ (power), E2 VCC (power), E13 VCC (power), H4 VCC (power), H14 VCCQ (power), K1 VCCQ (power), K12 VCC (power), M10 VCC (power), N4 VCC1A (power), N15 VCC (PLL1) (power), P4 VCC2A (power), P13 VCCQ (power), R5 VCC3A (power), R7 VCCQ (power), R15 VCC (PLL2) (power)
part D pins: B1 VSSQ (power), B7 VSS (power), B9 VSSQ (power), B14 VSSQ (power), E1 VSS (power), E12 VSS (power), H3 VSS (power), H15 VSSQ (power), K2 VSSQ (power), K13 VSS (power), N3 VSS1A (power), N10 VSS (power), N14 VSS (PLL1) (power), P3 VSS1A (power), P5 VSS2A (power), P7 VSSQ (power), P14 VSSQ (power), P15 VSS (PLL2) (power)

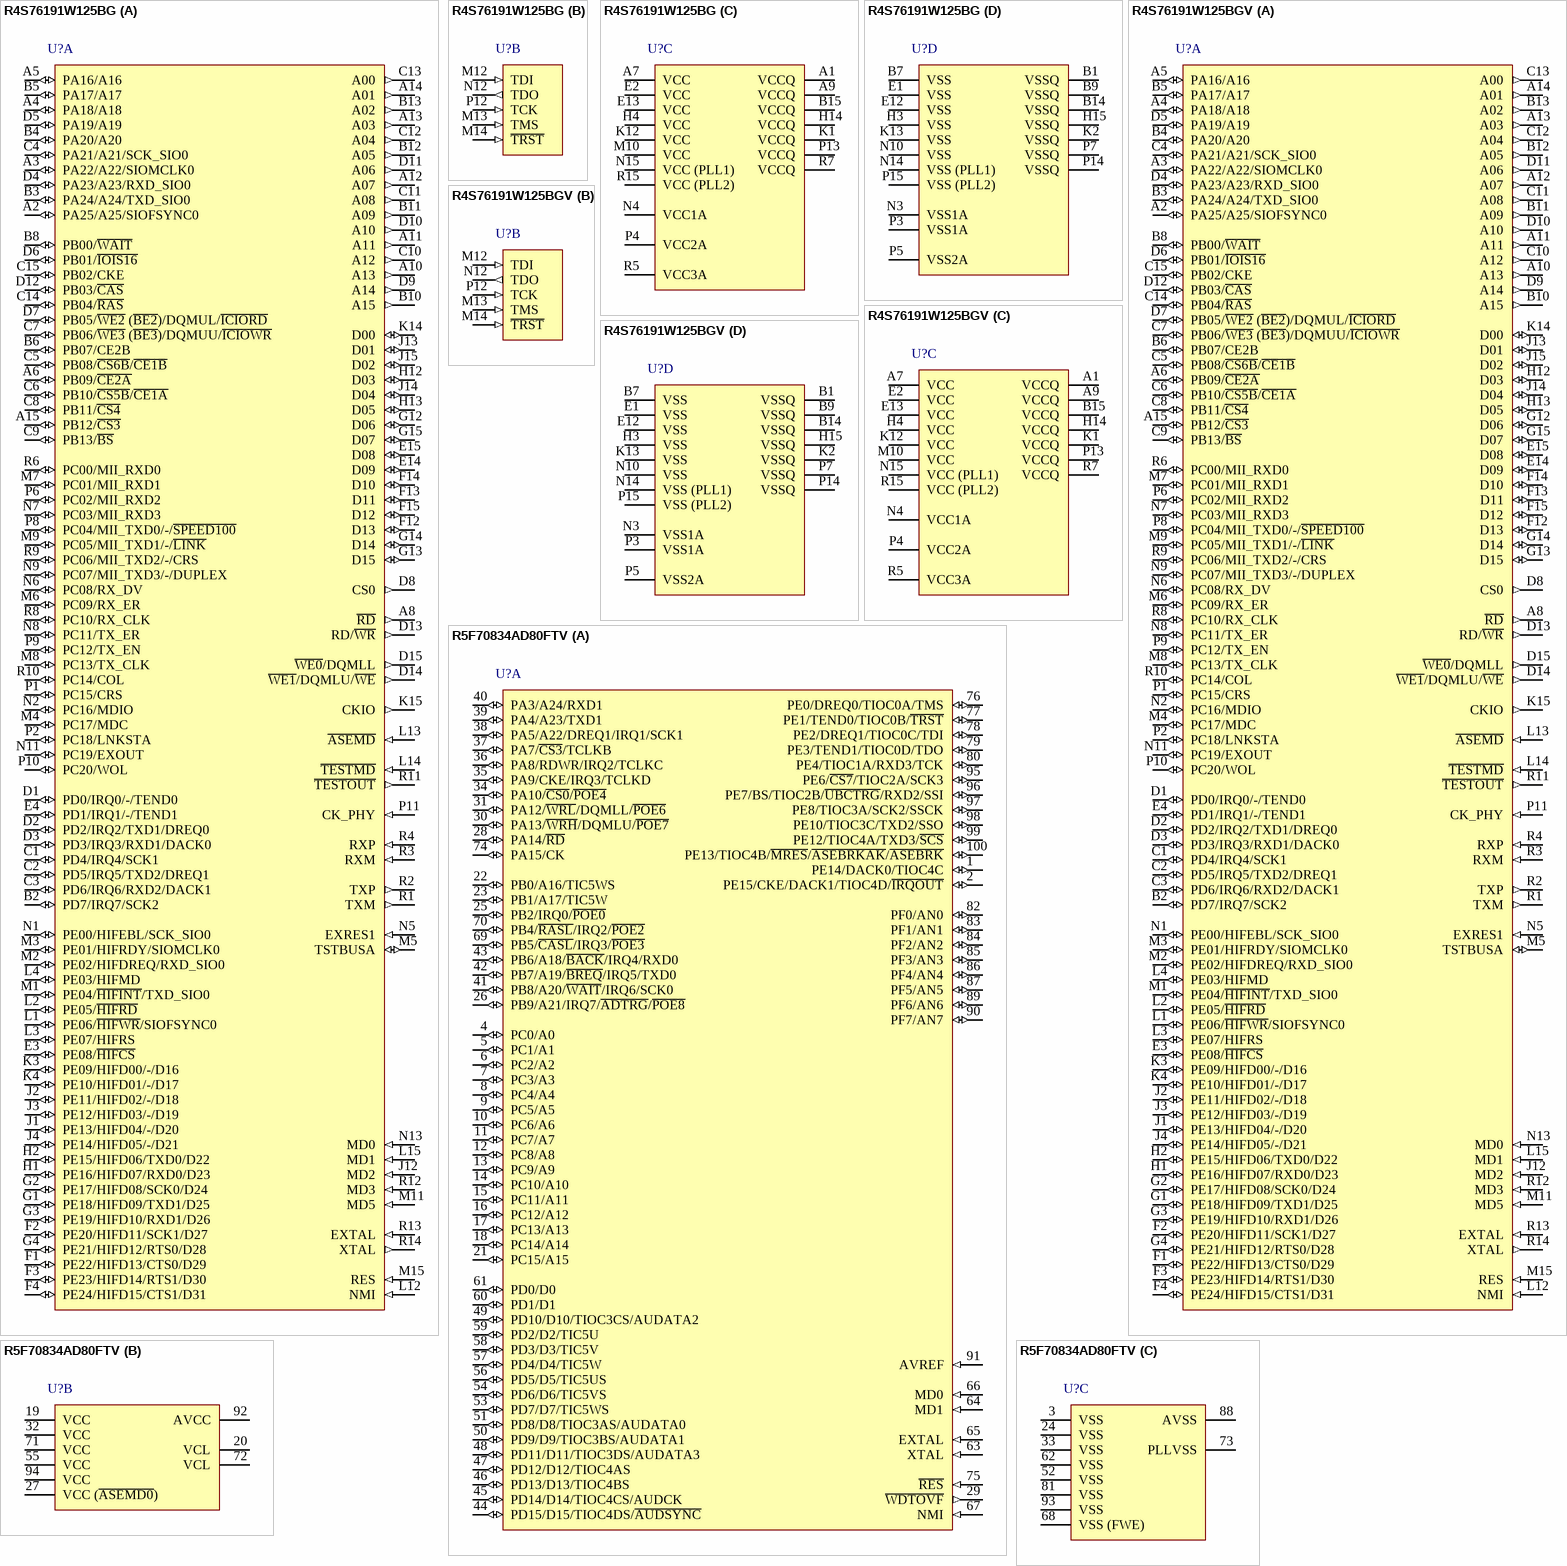
[diagram p129: symbols R4S76191W125BG to R5F70834AD80FTV]

## R4S76191W125BG
designator U?
32-Bit RISC Microcomputer, SH-Ether Series, SH-2 core, 125MHz, 16K RAM, PLBG0176GA-A (BP-176) Package, -20 to 85°C; Published: 28-Aug-2009; LatestRevisionDate: 15-Feb-2010; LatestRevisionNote: Updated to datasheet revision 6.00 Jul-2009.; DatasheetVersion: Rev.6.00, Jul-2009; PackageVersion: Apr-2006; PackageReference: PLBG0176GA-A; Publisher: Altium Limited; PackageDescription: 176-Ball Plastic Low Profile Fine-Pitch BGA, 13 x 13 mm Body, 0.8 mm Pitch; Code_JEITA: P-LFBGA176-13x13-0.80; ComponentLink1Description: Manufacturer Link; ComponentLink1URL: http://www.renesas.com/fmwk.jsp?cnt=sh7619_root.jsp&fp=/products/mpumcu/superh_family/shether_series/sh7619_group/; ComponentLink2Description: Datasheet; ComponentLink2URL: http://documentation.renesas.com/eng/products/mpumcu/rej09b0237_sh7619.pdf; ComponentLink3Description: Packaging Specification; ComponentLink3URL: http://sg.renesas.com/media/products/common_info/package/pdf/ic/code/plbg0176ga_a.pdf
footprint PLBG0176GA-A (BGA, 176-Leads, Body 13x13mm, Pitch 0.8mm)
part A pins: A2 PA25/A25/SIOFSYNC0 (io), A3 PA22/A22/SIOMCLK0 (io), A4 PA18/A18 (io), A5 PA16/A16 (io), A6 PB09/~{CE2A} (io), A8 ~{RD} (out), A10 A13 (out), A11 (out), A12 A07 (out), A13 A03 (out), A14 A01 (out), A15 PB12/~{CS3} (io), B2 PD7/IRQ7/SCK2 (io), B3 PA24/A24/TXD_SIO0 (io), B4 PA20/A20 (io), B5 PA17/A17 (io), B6 PB07/CE2B (io), B8 PB00/~{WAIT} (io), B10 A15 (out), B11 A09 (out), B12 A05 (out), B13 A02 (out), C1 PD4/IRQ4/SCK1 (io), C2 PD5/IRQ5/TXD2/DREQ1 (io), C3 PD6/IRQ6/RXD2/DACK1 (io), C4 PA21/A21/SCK_SIO0 (io), C5 PB08/~{CS6B}/~{CE1B} (io), C6 PB10/~{CS5B}/~{CE1A} (io), C7 PB06/~{WE3} (~{BE3})/DQMUU/~{ICIOWR} (io), C8 PB11/~{CS4} (io), C9 PB13/~{BS} (io), C10 A12 (out), C11 A08 (out), C12 A04 (out), C13 A00 (out), C14 PB04/~{RAS} (io), C15 PB02/CKE (io), D1 PD0/IRQ0/-/TEND0 (io), D2 PD2/IRQ2/TXD1/DREQ0 (io), D3 PD3/IRQ3/RXD1/DACK0 (io), D4 PA23/A23/RXD_SIO0 (io), D5 PA19/A19 (io), D6 PB01/~{IOIS16} (io), D7 PB05/~{WE2} (~{BE2})/DQMUL/~{ICIORD} (io), D8 CS0 (out), D9 A14 (out), D10 A10 (out), D11 A06 (out), D12 PB03/~{CAS} (io), D13 RD/~{WR} (out), D14 ~{WE1}/DQMLU/~{WE} (out), D15 ~{WE0}/DQMLL (out), E3 PE08/~{HIFCS} (io), E4 PD1/IRQ1/-/TEND1 (io), E14 D09 (io), E15 D08 (io), F1 PE22/HIFD13/CTS0/D29 (io), F2 PE20/HIFD11/SCK1/D27 (io), F3 PE23/HIFD14/RTS1/D30 (io), F4 PE24/HIFD15/CTS1/D31 (io), F12 D13 (io), F13 D11 (io), F14 D10 (io), F15 D12 (io), G1 PE18/HIFD09/TXD1/D25 (io), G2 PE17/HIFD08/SCK0/D24 (io), G3 PE19/HIFD10/RXD1/D26 (io), G4 PE21/HIFD12/RTS0/D28 (io), G12 D06 (io), G13 D15 (io), G14 D14 (io), G15 D07 (io), H1 PE16/HIFD07/RXD0/D23 (io), H2 PE15/HIFD06/TXD0/D22 (io), H12 D03 (io), H13 D05 (io), J1 PE13/HIFD04/-/D20 (io), J2 PE11/HIFD02/-/D18 (io), J3 PE12/HIFD03/-/D19 (io), J4 PE14/HIFD05/-/D21 (io), J12 MD2 (in), J13 D01 (io), J14 D04 (io), J15 D02 (io), K3 PE09/HIFD00/-/D16 (io), K4 PE10/HIFD01/-/D17 (io), K14 D00 (io), K15 CKIO (out), L1 PE06/~{HIFWR}/SIOFSYNC0 (io), L2 PE05/~{HIFRD} (io), L3 PE07/HIFRS (io), L4 PE03/HIFMD (io), L12 NMI (in), L13 ~{ASEMD} (in), L14 ~{TESTMD} (in), L15 MD1 (in), M1 PE04/~{HIFINT}/TXD_SIO0 (io), M2 PE02/HIFDREQ/RXD_SIO0 (io), M3 PE01/HIFRDY/SIOMCLK0 (io), M4 PC17/MDC (io), M5 TSTBUSA (io), M6 PC09/RX_ER (io), M7 PC01/MII_RXD1 (io), M8 PC13/TX_CLK (io), M9 PC05/MII_TXD1/-/~{LINK} (io), M11 MD5 (in), M15 RES (in), N1 PE00/HIFEBL/SCK_SIO0 (io), N2 PC16/MDIO (io), N5 EXRES1 (in), N6 PC08/RX_DV (io), N7 PC03/MII_RXD3 (io), N8 PC11/TX_ER (io), N9 PC07/MII_TXD3/-/DUPLEX (io), N11 PC19/EXOUT (io), N13 MD0 (in), P1 PC15/CRS (io), P2 PC18/LNKSTA (io), P6 PC02/MII_RXD2 (io), P8 PC04/MII_TXD0/-/~{SPEED100} (io), P9 PC12/TX_EN (io), P10 PC20/WOL (io), P11 CK_PHY (in), R1 TXM (out), R2 TXP (out), R3 RXM (in), R4 RXP (in), R6 PC00/MII_RXD0 (io), R8 PC10/RX_CLK (io), R9 PC06/MII_TXD2/-/CRS (io), R10 PC14/COL (io), R11 ~{TESTOUT} (out), R12 MD3 (in), R13 EXTAL (in), R14 XTAL (out)
part B pins: M12 TDI (in), M13 TMS (in), M14 ~{TRST} (in), N12 TDO (out), P12 TCK (in)
part C pins: A1 VCCQ (power), A7 VCC (power), A9 VCCQ (power), B15 VCCQ (power), E2 VCC (power), E13 VCC (power), H4 VCC (power), H14 VCCQ (power), K1 VCCQ (power), K12 VCC (power), M10 VCC (power), N4 VCC1A (power), N15 VCC (PLL1) (power), P4 VCC2A (power), P13 VCCQ (power), R5 VCC3A (power), R7 VCCQ (power), R15 VCC (PLL2) (power)
part D pins: B1 VSSQ (power), B7 VSS (power), B9 VSSQ (power), B14 VSSQ (power), E1 VSS (power), E12 VSS (power), H3 VSS (power), H15 VSSQ (power), K2 VSSQ (power), K13 VSS (power), N3 VSS1A (power), N10 VSS (power), N14 VSS (PLL1) (power), P3 VSS1A (power), P5 VSS2A (power), P7 VSSQ (power), P14 VSSQ (power), P15 VSS (PLL2) (power)

## R4S76191W125BGV
designator U?
32-Bit RISC Microcomputer, SH-Ether Series, SH-2 core, 125MHz, 16K RAM, PLBG0176GA-A (BP-176V) Package, -20 to 85°C; Published: 28-Aug-2009; LatestRevisionDate: 15-Feb-2010; LatestRevisionNote: Updated to datasheet revision 6.00 Jul-2009.; DatasheetVersion: Rev.6.00, Jul-2009; PackageVersion: Apr-2006; PackageReference: PLBG0176GA-A; Publisher: Altium Limited; PackageDescription: 176-Ball Plastic Low Profile Fine-Pitch BGA, 13 x 13 mm Body, 0.8 mm Pitch; Code_JEITA: P-LFBGA176-13x13-0.80; ComponentLink1Description: Manufacturer Link; ComponentLink1URL: http://www.renesas.com/fmwk.jsp?cnt=sh7619_root.jsp&fp=/products/mpumcu/superh_family/shether_series/sh7619_group/; ComponentLink2Description: Datasheet; ComponentLink2URL: http://documentation.renesas.com/eng/products/mpumcu/rej09b0237_sh7619.pdf; ComponentLink3Description: Packaging Specification; ComponentLink3URL: http://sg.renesas.com/media/products/common_info/package/pdf/ic/code/plbg0176ga_a.pdf
footprint PLBG0176GA-A (BGA, 176-Leads, Body 13x13mm, Pitch 0.8mm)
part A pins: A2 PA25/A25/SIOFSYNC0 (io), A3 PA22/A22/SIOMCLK0 (io), A4 PA18/A18 (io), A5 PA16/A16 (io), A6 PB09/~{CE2A} (io), A8 ~{RD} (out), A10 A13 (out), A11 (out), A12 A07 (out), A13 A03 (out), A14 A01 (out), A15 PB12/~{CS3} (io), B2 PD7/IRQ7/SCK2 (io), B3 PA24/A24/TXD_SIO0 (io), B4 PA20/A20 (io), B5 PA17/A17 (io), B6 PB07/CE2B (io), B8 PB00/~{WAIT} (io), B10 A15 (out), B11 A09 (out), B12 A05 (out), B13 A02 (out), C1 PD4/IRQ4/SCK1 (io), C2 PD5/IRQ5/TXD2/DREQ1 (io), C3 PD6/IRQ6/RXD2/DACK1 (io), C4 PA21/A21/SCK_SIO0 (io), C5 PB08/~{CS6B}/~{CE1B} (io), C6 PB10/~{CS5B}/~{CE1A} (io), C7 PB06/~{WE3} (~{BE3})/DQMUU/~{ICIOWR} (io), C8 PB11/~{CS4} (io), C9 PB13/~{BS} (io), C10 A12 (out), C11 A08 (out), C12 A04 (out), C13 A00 (out), C14 PB04/~{RAS} (io), C15 PB02/CKE (io), D1 PD0/IRQ0/-/TEND0 (io), D2 PD2/IRQ2/TXD1/DREQ0 (io), D3 PD3/IRQ3/RXD1/DACK0 (io), D4 PA23/A23/RXD_SIO0 (io), D5 PA19/A19 (io), D6 PB01/~{IOIS16} (io), D7 PB05/~{WE2} (~{BE2})/DQMUL/~{ICIORD} (io), D8 CS0 (out), D9 A14 (out), D10 A10 (out), D11 A06 (out), D12 PB03/~{CAS} (io), D13 RD/~{WR} (out), D14 ~{WE1}/DQMLU/~{WE} (out), D15 ~{WE0}/DQMLL (out), E3 PE08/~{HIFCS} (io), E4 PD1/IRQ1/-/TEND1 (io), E14 D09 (io), E15 D08 (io), F1 PE22/HIFD13/CTS0/D29 (io), F2 PE20/HIFD11/SCK1/D27 (io), F3 PE23/HIFD14/RTS1/D30 (io), F4 PE24/HIFD15/CTS1/D31 (io), F12 D13 (io), F13 D11 (io), F14 D10 (io), F15 D12 (io), G1 PE18/HIFD09/TXD1/D25 (io), G2 PE17/HIFD08/SCK0/D24 (io), G3 PE19/HIFD10/RXD1/D26 (io), G4 PE21/HIFD12/RTS0/D28 (io), G12 D06 (io), G13 D15 (io), G14 D14 (io), G15 D07 (io), H1 PE16/HIFD07/RXD0/D23 (io), H2 PE15/HIFD06/TXD0/D22 (io), H12 D03 (io), H13 D05 (io), J1 PE13/HIFD04/-/D20 (io), J2 PE11/HIFD02/-/D18 (io), J3 PE12/HIFD03/-/D19 (io), J4 PE14/HIFD05/-/D21 (io), J12 MD2 (in), J13 D01 (io), J14 D04 (io), J15 D02 (io), K3 PE09/HIFD00/-/D16 (io), K4 PE10/HIFD01/-/D17 (io), K14 D00 (io), K15 CKIO (out), L1 PE06/~{HIFWR}/SIOFSYNC0 (io), L2 PE05/~{HIFRD} (io), L3 PE07/HIFRS (io), L4 PE03/HIFMD (io), L12 NMI (in), L13 ~{ASEMD} (in), L14 ~{TESTMD} (in), L15 MD1 (in), M1 PE04/~{HIFINT}/TXD_SIO0 (io), M2 PE02/HIFDREQ/RXD_SIO0 (io), M3 PE01/HIFRDY/SIOMCLK0 (io), M4 PC17/MDC (io), M5 TSTBUSA (io), M6 PC09/RX_ER (io), M7 PC01/MII_RXD1 (io), M8 PC13/TX_CLK (io), M9 PC05/MII_TXD1/-/~{LINK} (io), M11 MD5 (in), M15 RES (in), N1 PE00/HIFEBL/SCK_SIO0 (io), N2 PC16/MDIO (io), N5 EXRES1 (in), N6 PC08/RX_DV (io), N7 PC03/MII_RXD3 (io), N8 PC11/TX_ER (io), N9 PC07/MII_TXD3/-/DUPLEX (io), N11 PC19/EXOUT (io), N13 MD0 (in), P1 PC15/CRS (io), P2 PC18/LNKSTA (io), P6 PC02/MII_RXD2 (io), P8 PC04/MII_TXD0/-/~{SPEED100} (io), P9 PC12/TX_EN (io), P10 PC20/WOL (io), P11 CK_PHY (in), R1 TXM (out), R2 TXP (out), R3 RXM (in), R4 RXP (in), R6 PC00/MII_RXD0 (io), R8 PC10/RX_CLK (io), R9 PC06/MII_TXD2/-/CRS (io), R10 PC14/COL (io), R11 ~{TESTOUT} (out), R12 MD3 (in), R13 EXTAL (in), R14 XTAL (out)
part B pins: M12 TDI (in), M13 TMS (in), M14 ~{TRST} (in), N12 TDO (out), P12 TCK (in)
part C pins: A1 VCCQ (power), A7 VCC (power), A9 VCCQ (power), B15 VCCQ (power), E2 VCC (power), E13 VCC (power), H4 VCC (power), H14 VCCQ (power), K1 VCCQ (power), K12 VCC (power), M10 VCC (power), N4 VCC1A (power), N15 VCC (PLL1) (power), P4 VCC2A (power), P13 VCCQ (power), R5 VCC3A (power), R7 VCCQ (power), R15 VCC (PLL2) (power)
part D pins: B1 VSSQ (power), B7 VSS (power), B9 VSSQ (power), B14 VSSQ (power), E1 VSS (power), E12 VSS (power), H3 VSS (power), H15 VSSQ (power), K2 VSSQ (power), K13 VSS (power), N3 VSS1A (power), N10 VSS (power), N14 VSS (PLL1) (power), P3 VSS1A (power), P5 VSS2A (power), P7 VSSQ (power), P14 VSSQ (power), P15 VSS (PLL2) (power)

## R5F70834AD80FTV
designator U?
32-Bit RISC Microcomputer, SH7080 Series, SH-2 core, 80MHz, 256K ROM, 16K RAM, PTQP0100KA-A (TFP-100BV) Package, -40 to 85°C; Published: 28-Aug-2009; LatestRevisionDate: 15-Feb-2010; LatestRevisionNote: Updated to datasheet revision 4.00 Dec-2009.; DatasheetVersion: Rev.4.00, Dec-2009; PackageVersion: Sep-2005; PackageReference: PTQP0100KA-A; Publisher: Altium Limited; PackageDescription: 100-Pin Plastic Thin Quad Flat Pack, 14 x 14 x 1.0 mm Body, 0.5 mm Pitch; Code_JEITA: P-TQFP100-14x14-0.50; ComponentLink1Description: Manufacturer Link; ComponentLink1URL: http://www.renesas.com/fmwk.jsp?cnt=sh7080_root.jsp&fp=/products/mpumcu/superh_family/sh7080_series/sh7080_group/; ComponentLink2Description: Datasheet; ComponentLink2URL: http://documentation.renesas.com/eng/products/mpumcu/rej09b0181_sh7080.pdf; ComponentLink3Description: Packaging Specification; ComponentLink3URL: http://sg.renesas.com/media/products/common_info/package/pdf/ic/code/ptqp0100ka_a.pdf
footprint PTQP0100KA-A_N (Thin QFP, 100-Leads, Body 14x14mm, Pitch 0.5mm, IPC Medium Density)
footprint PTQP0100KA-A_L (Thin QFP, 100-Leads, Body 14x14mm, Pitch 0.5mm, IPC High Density)
footprint PTQP0100KA-A_M (Thin QFP, 100-Leads, Body 14x14mm, Pitch 0.5mm, IPC Low Density)
part A pins: 1 PE14/DACK0/TIOC4C (io), 2 PE15/CKE/DACK1/TIOC4D/~{IRQOUT} (io), 4 PC0/A0 (io), 5 PC1/A1 (io), 6 PC2/A2 (io), 7 PC3/A3 (io), 8 PC4/A4 (io), 9 PC5/A5 (io), 10 PC6/A6 (io), 11 PC7/A7 (io), 12 PC8/A8 (io), 13 PC9/A9 (io), 14 PC10/A10 (io), 15 PC11/A11 (io), 16 PC12/A12 (io), 17 PC13/A13 (io), 18 PC14/A14 (io), 21 PC15/A15 (io), 22 PB0/A16/TIC5WS (io), 23 PB1/A17/TIC5W (io), 25 PB2/IRQ0/~{POE0} (io), 26 PB9/A21/IRQ7/~{ADTRG}/~{POE8} (io), 28 PA14/~{RD} (io), 29 ~{WDTOVF} (out), 30 PA13/~{WRH}/DQMLU/~{POE7} (io), 31 PA12/~{WRL}/DQMLL/~{POE6} (io), 34 PA10/~{CS0}/~{POE4} (io), 35 PA9/CKE/IRQ3/TCLKD (io), 36 PA8/RDWR/IRQ2/TCLKC (io), 37 PA7/~{CS3}/TCLKB (io), 38 PA5/A22/DREQ1/IRQ1/SCK1 (io), 39 PA4/A23/TXD1 (io), 40 PA3/A24/RXD1 (io), 41 PB8/A20/~{WAIT}/IRQ6/SCK0 (io), 42 PB7/A19/~{BREQ}/IRQ5/TXD0 (io), 43 PB6/A18/~{BACK}/IRQ4/RXD0 (io), 44 PD15/D15/TIOC4DS/~{AUDSYNC} (io), 45 PD14/D14/TIOC4CS/AUDCK (io), 46 PD13/D13/TIOC4BS (io), 47 PD12/D12/TIOC4AS (io), 48 PD11/D11/TIOC3DS/AUDATA3 (io), 49 PD10/D10/TIOC3CS/AUDATA2 (io), 50 PD9/D9/TIOC3BS/AUDATA1 (io), 51 PD8/D8/TIOC3AS/AUDATA0 (io), 53 PD7/D7/TIC5WS (io), 54 PD6/D6/TIC5VS (io), 56 PD5/D5/TIC5US (io), 57 PD4/D4/TIC5W (io), 58 PD3/D3/TIC5V (io), 59 PD2/D2/TIC5U (io), 60 PD1/D1 (io), 61 PD0/D0 (io), 63 XTAL (in), 64 MD1 (in), 65 EXTAL (in), 66 MD0 (in), 67 NMI (in), 69 PB5/~{CASL}/IRQ3/~{POE3} (io), 70 PB4/~{RASL}/IRQ2/~{POE2} (io), 74 PA15/CK (io), 75 ~{RES} (in), 76 PE0/DREQ0/TIOC0A/TMS (io), 77 PE1/TEND0/TIOC0B/~{TRST} (io), 78 PE2/DREQ1/TIOC0C/TDI (io), 79 PE3/TEND1/TIOC0D/TDO (io), 80 PE4/TIOC1A/RXD3/TCK (io), 82 PF0/AN0 (io), 83 PF1/AN1 (io), 84 PF2/AN2 (io), 85 PF3/AN3 (io), 86 PF4/AN4 (io), 87 PF5/AN5 (io), 89 PF6/AN6 (io), 90 PF7/AN7 (io), 91 AVREF (in), 95 PE6/~{CS7}/TIOC2A/SCK3 (io), 96 PE7/BS/TIOC2B/~{UBCTRG}/RXD2/SSI (io), 97 PE8/TIOC3A/SCK2/SSCK (io), 98 PE10/TIOC3C/TXD2/SSO (io), 99 PE12/TIOC4A/TXD3/~{SCS} (io), 100 PE13/TIOC4B/~{MRES}/~{ASEBRKAK}/~{ASEBRK} (io)
part B pins: 19 VCC (power), 20 VCL (power), 27 VCC (~{ASEMD0}) (power), 32 VCC (power), 55 VCC (power), 71 VCC (power), 72 VCL (power), 92 AVCC (power), 94 VCC (power)
part C pins: 3 VSS (power), 24 VSS (power), 33 VSS (power), 52 VSS (power), 62 VSS (power), 68 VSS (FWE) (power), 73 PLLVSS (power), 81 VSS (power), 88 AVSS (power), 93 VSS (power)

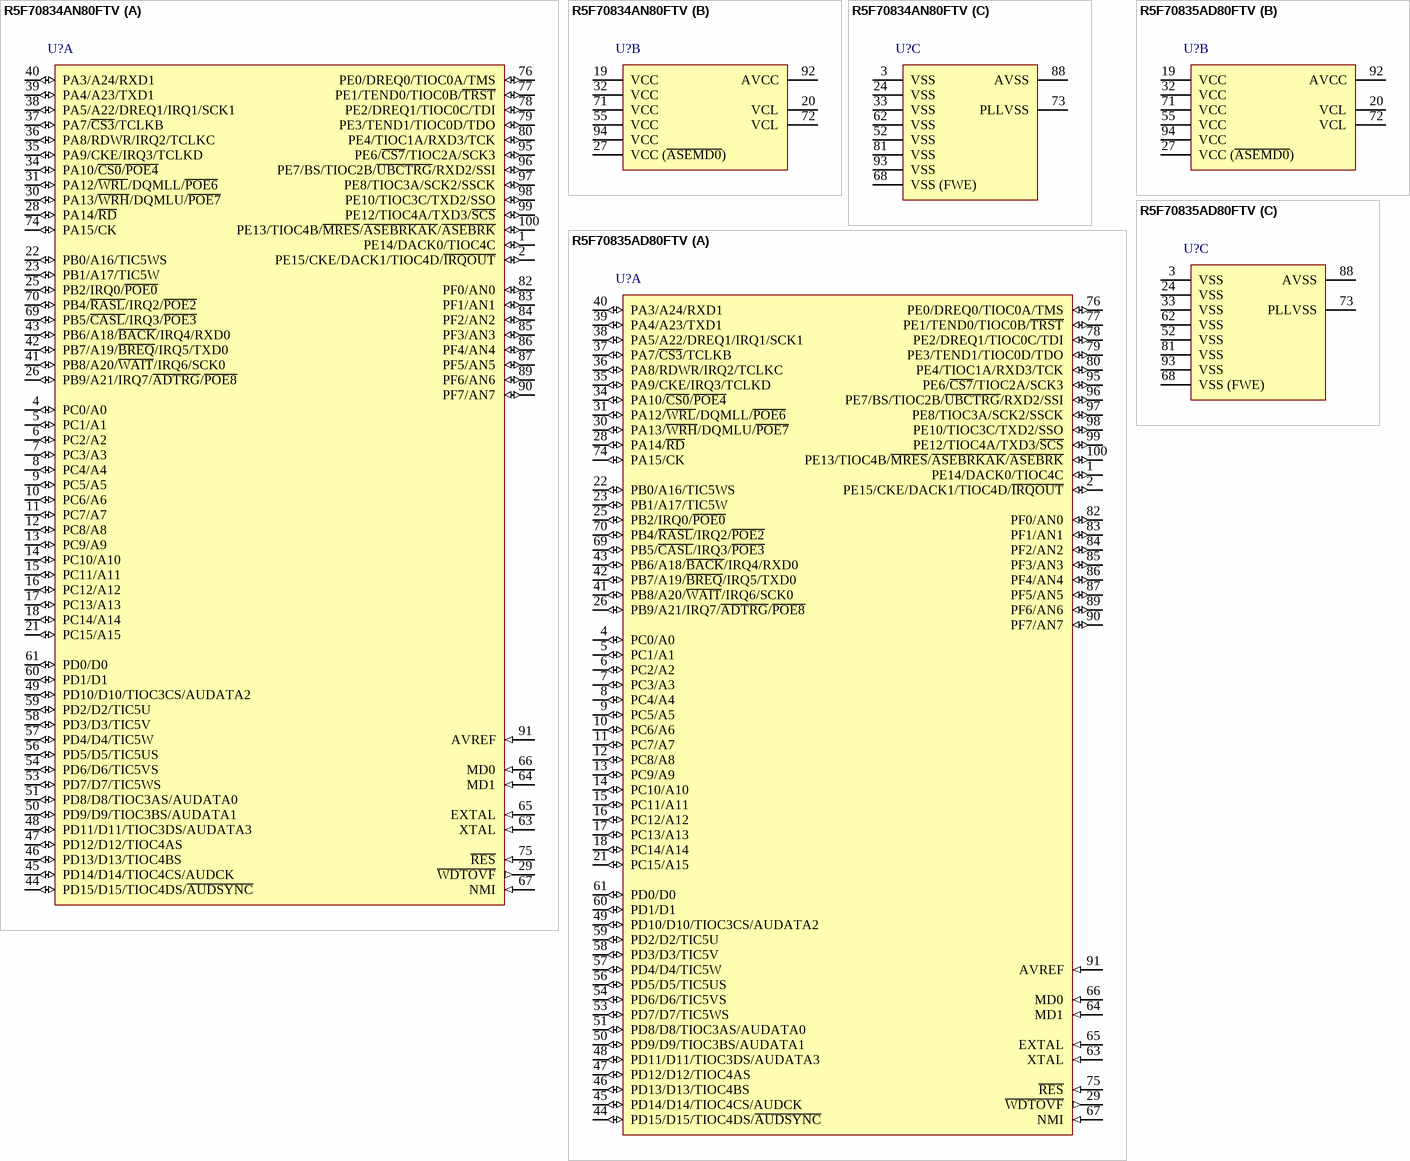
[diagram p130: symbols R5F70834AN80FTV to R5F70835AD80FTV]

## R5F70834AN80FTV
designator U?
32-Bit RISC Microcomputer, SH7080 Series, SH-2 core, 80MHz, 256K ROM, 16K RAM, PTQP0100KA-A (TFP-100BV) Package, -20 to 85°C; Published: 28-Aug-2009; LatestRevisionDate: 15-Feb-2010; LatestRevisionNote: Updated to datasheet revision 4.00 Dec-2009.; DatasheetVersion: Rev.4.00, Dec-2009; PackageVersion: Sep-2005; PackageReference: PTQP0100KA-A; Publisher: Altium Limited; PackageDescription: 100-Pin Plastic Thin Quad Flat Pack, 14 x 14 x 1.0 mm Body, 0.5 mm Pitch; Code_JEITA: P-TQFP100-14x14-0.50; ComponentLink1Description: Manufacturer Link; ComponentLink1URL: http://www.renesas.com/fmwk.jsp?cnt=sh7080_root.jsp&fp=/products/mpumcu/superh_family/sh7080_series/sh7080_group/; ComponentLink2Description: Datasheet; ComponentLink2URL: http://documentation.renesas.com/eng/products/mpumcu/rej09b0181_sh7080.pdf; ComponentLink3Description: Packaging Specification; ComponentLink3URL: http://sg.renesas.com/media/products/common_info/package/pdf/ic/code/ptqp0100ka_a.pdf
footprint PTQP0100KA-A_N (Thin QFP, 100-Leads, Body 14x14mm, Pitch 0.5mm, IPC Medium Density)
footprint PTQP0100KA-A_L (Thin QFP, 100-Leads, Body 14x14mm, Pitch 0.5mm, IPC High Density)
footprint PTQP0100KA-A_M (Thin QFP, 100-Leads, Body 14x14mm, Pitch 0.5mm, IPC Low Density)
part A pins: 1 PE14/DACK0/TIOC4C (io), 2 PE15/CKE/DACK1/TIOC4D/~{IRQOUT} (io), 4 PC0/A0 (io), 5 PC1/A1 (io), 6 PC2/A2 (io), 7 PC3/A3 (io), 8 PC4/A4 (io), 9 PC5/A5 (io), 10 PC6/A6 (io), 11 PC7/A7 (io), 12 PC8/A8 (io), 13 PC9/A9 (io), 14 PC10/A10 (io), 15 PC11/A11 (io), 16 PC12/A12 (io), 17 PC13/A13 (io), 18 PC14/A14 (io), 21 PC15/A15 (io), 22 PB0/A16/TIC5WS (io), 23 PB1/A17/TIC5W (io), 25 PB2/IRQ0/~{POE0} (io), 26 PB9/A21/IRQ7/~{ADTRG}/~{POE8} (io), 28 PA14/~{RD} (io), 29 ~{WDTOVF} (out), 30 PA13/~{WRH}/DQMLU/~{POE7} (io), 31 PA12/~{WRL}/DQMLL/~{POE6} (io), 34 PA10/~{CS0}/~{POE4} (io), 35 PA9/CKE/IRQ3/TCLKD (io), 36 PA8/RDWR/IRQ2/TCLKC (io), 37 PA7/~{CS3}/TCLKB (io), 38 PA5/A22/DREQ1/IRQ1/SCK1 (io), 39 PA4/A23/TXD1 (io), 40 PA3/A24/RXD1 (io), 41 PB8/A20/~{WAIT}/IRQ6/SCK0 (io), 42 PB7/A19/~{BREQ}/IRQ5/TXD0 (io), 43 PB6/A18/~{BACK}/IRQ4/RXD0 (io), 44 PD15/D15/TIOC4DS/~{AUDSYNC} (io), 45 PD14/D14/TIOC4CS/AUDCK (io), 46 PD13/D13/TIOC4BS (io), 47 PD12/D12/TIOC4AS (io), 48 PD11/D11/TIOC3DS/AUDATA3 (io), 49 PD10/D10/TIOC3CS/AUDATA2 (io), 50 PD9/D9/TIOC3BS/AUDATA1 (io), 51 PD8/D8/TIOC3AS/AUDATA0 (io), 53 PD7/D7/TIC5WS (io), 54 PD6/D6/TIC5VS (io), 56 PD5/D5/TIC5US (io), 57 PD4/D4/TIC5W (io), 58 PD3/D3/TIC5V (io), 59 PD2/D2/TIC5U (io), 60 PD1/D1 (io), 61 PD0/D0 (io), 63 XTAL (in), 64 MD1 (in), 65 EXTAL (in), 66 MD0 (in), 67 NMI (in), 69 PB5/~{CASL}/IRQ3/~{POE3} (io), 70 PB4/~{RASL}/IRQ2/~{POE2} (io), 74 PA15/CK (io), 75 ~{RES} (in), 76 PE0/DREQ0/TIOC0A/TMS (io), 77 PE1/TEND0/TIOC0B/~{TRST} (io), 78 PE2/DREQ1/TIOC0C/TDI (io), 79 PE3/TEND1/TIOC0D/TDO (io), 80 PE4/TIOC1A/RXD3/TCK (io), 82 PF0/AN0 (io), 83 PF1/AN1 (io), 84 PF2/AN2 (io), 85 PF3/AN3 (io), 86 PF4/AN4 (io), 87 PF5/AN5 (io), 89 PF6/AN6 (io), 90 PF7/AN7 (io), 91 AVREF (in), 95 PE6/~{CS7}/TIOC2A/SCK3 (io), 96 PE7/BS/TIOC2B/~{UBCTRG}/RXD2/SSI (io), 97 PE8/TIOC3A/SCK2/SSCK (io), 98 PE10/TIOC3C/TXD2/SSO (io), 99 PE12/TIOC4A/TXD3/~{SCS} (io), 100 PE13/TIOC4B/~{MRES}/~{ASEBRKAK}/~{ASEBRK} (io)
part B pins: 19 VCC (power), 20 VCL (power), 27 VCC (~{ASEMD0}) (power), 32 VCC (power), 55 VCC (power), 71 VCC (power), 72 VCL (power), 92 AVCC (power), 94 VCC (power)
part C pins: 3 VSS (power), 24 VSS (power), 33 VSS (power), 52 VSS (power), 62 VSS (power), 68 VSS (FWE) (power), 73 PLLVSS (power), 81 VSS (power), 88 AVSS (power), 93 VSS (power)